# Altium schematic symbol library con-vg.SCHLIB: 123 symbols (part 3 of 5)

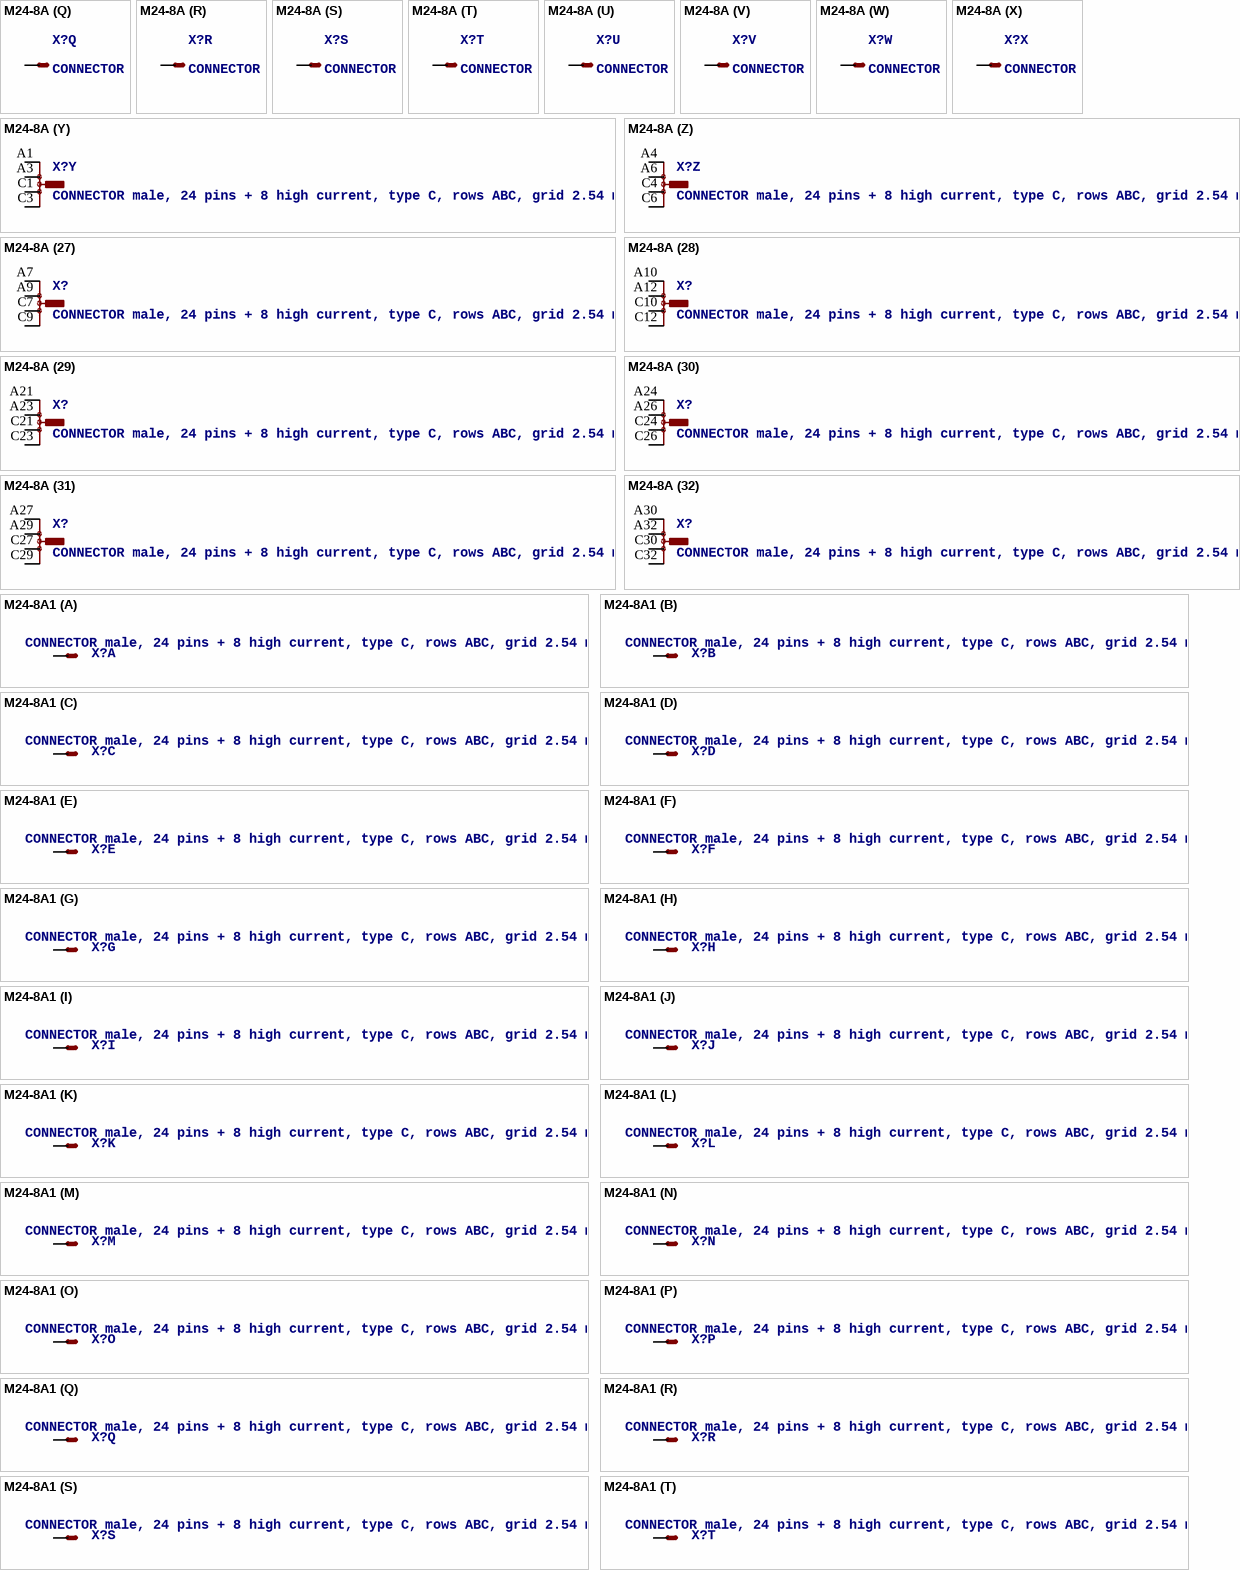
[diagram p46: symbols M24-8A to M24-8A1]

## M24-8A
designator X?, comment CONNECTOR male, 24 pins + 8 high current, type C, rows ABC, grid 2.54 mm
footprint M24-8A
part A pins: A13 S
part B pins: A14 S
part C pins: A15 S
part D pins: A16 S
part E pins: A17 S
part F pins: A18 S
part G pins: A19 S
part H pins: A20 S
part I pins: B13 S
part J pins: B14 S
part K pins: B15 S
part L pins: B16 S
part M pins: B17 S
part N pins: B18 S
part O pins: B19 S
part P pins: B20 S
part Q pins: C13 S
part R pins: C14 S
part S pins: C15 S
part T pins: C16 S
part U pins: C17 S
part V pins: C18 S
part W pins: C19 S
part X pins: C20 S
part Y pins: A1 S1, A3 S2, C1 S3, C3 S4
part Z pins: A4 S1, A6 S2, C4 S3, C6 S4
part 27 pins: A7 S1, A9 S2, C7 S3, C9 S4
part 28 pins: A10 S1, A12 S2, C10 S3, C12 S4
part 29 pins: A21 S1, A23 S2, C21 S3, C23 S4
part 30 pins: A24 S1, A26 S2, C24 S3, C26 S4
part 31 pins: A27 S1, A29 S2, C27 S3, C29 S4
part 32 pins: A30 S1, A32 S2, C30 S3, C32 S4

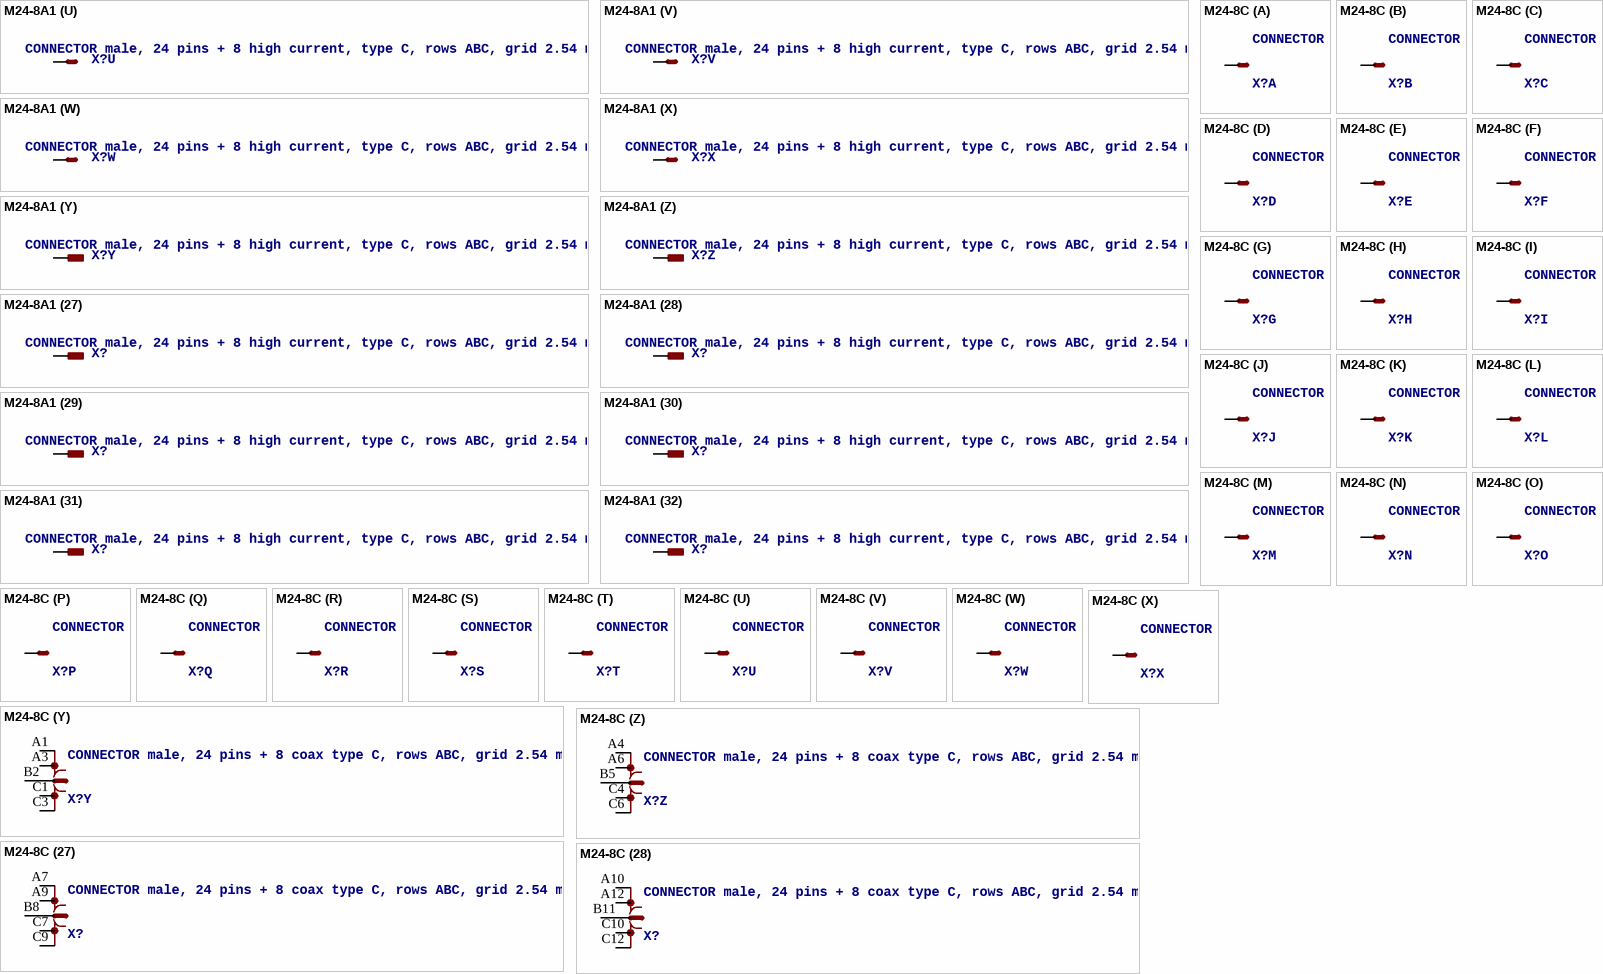
[diagram p47: symbols M24-8A1 to M24-8C]

## M24-8A1
designator X?, comment CONNECTOR male, 24 pins + 8 high current, type C, rows ABC, grid 2.54 mm
footprint M24-8A1
part A pins: A13 S
part B pins: A14 S
part C pins: A15 S
part D pins: A16 S
part E pins: A17 S
part F pins: A18 S
part G pins: A19 S
part H pins: A20 S
part I pins: B13 S
part J pins: B14 S
part K pins: B15 S
part L pins: B16 S
part M pins: B17 S
part N pins: B18 S
part O pins: B19 S
part P pins: B20 S
part Q pins: C13 S
part R pins: C14 S
part S pins: C15 S
part T pins: C16 S
part U pins: C17 S
part V pins: C18 S
part W pins: C19 S
part X pins: C20 S
part Y pins: B2 B
part Z pins: B5 B
part 27 pins: B8 B
part 28 pins: B11 B
part 29 pins: B22 B
part 30 pins: B25 B
part 31 pins: B28 B
part 32 pins: B31 B

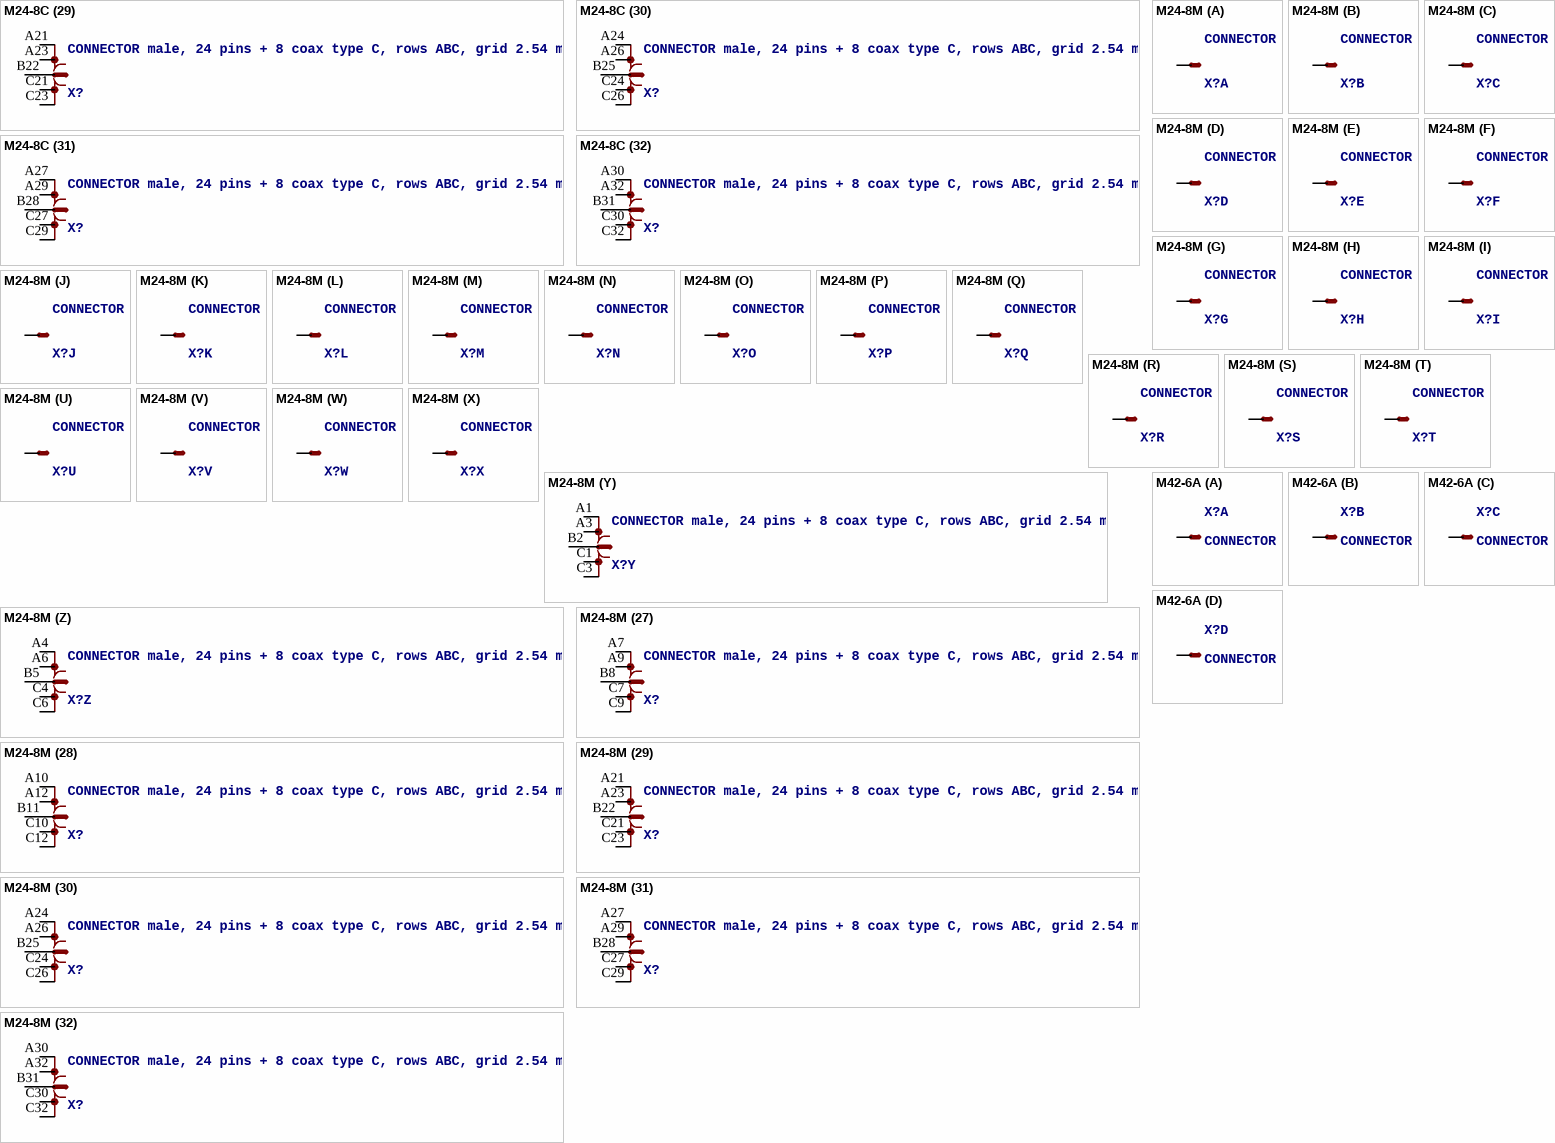
[diagram p48: symbols M24-8C to M42-6A]

## M24-8C
designator X?, comment CONNECTOR male, 24 pins + 8 coax type C, rows ABC, grid 2.54 mm
footprint M24-8C
part A pins: A13 S
part B pins: A14 S
part C pins: A15 S
part D pins: A16 S
part E pins: A17 S
part F pins: A18 S
part G pins: A19 S
part H pins: A20 S
part I pins: B13 S
part J pins: B14 S
part K pins: B15 S
part L pins: B16 S
part M pins: B17 S
part N pins: B18 S
part O pins: B19 S
part P pins: B20 S
part Q pins: C13 S
part R pins: C14 S
part S pins: C15 S
part T pins: C16 S
part U pins: C17 S
part V pins: C18 S
part W pins: C19 S
part X pins: C20 S
part Y pins: A1 S1, A3 S2, B2 S, C1 S3, C3 S4
part Z pins: A4 S1, A6 S2, B5 S, C4 S3, C6 S4
part 27 pins: A7 S1, A9 S2, B8 S, C7 S3, C9 S4
part 28 pins: A10 S1, A12 S2, B11 S, C10 S3, C12 S4
part 29 pins: A21 S1, A23 S2, B22 S, C21 S3, C23 S4
part 30 pins: A24 S1, A26 S2, B25 S, C24 S3, C26 S4
part 31 pins: A27 S1, A29 S2, B28 S, C27 S3, C29 S4
part 32 pins: A30 S1, A32 S2, B31 S, C30 S3, C32 S4

## M24-8M
designator X?, comment CONNECTOR male, 24 pins + 8 coax type C, rows ABC, grid 2.54 mm
footprint M24-8M
part A pins: A13 S
part B pins: A14 S
part C pins: A15 S
part D pins: A16 S
part E pins: A17 S
part F pins: A18 S
part G pins: A19 S
part H pins: A20 S
part I pins: B13 S
part J pins: B14 S
part K pins: B15 S
part L pins: B16 S
part M pins: B17 S
part N pins: B18 S
part O pins: B19 S
part P pins: B20 S
part Q pins: C13 S
part R pins: C14 S
part S pins: C15 S
part T pins: C16 S
part U pins: C17 S
part V pins: C18 S
part W pins: C19 S
part X pins: C20 S
part Y pins: A1 S1, A3 S2, B2 S, C1 S3, C3 S4
part Z pins: A4 S1, A6 S2, B5 S, C4 S3, C6 S4
part 27 pins: A7 S1, A9 S2, B8 S, C7 S3, C9 S4
part 28 pins: A10 S1, A12 S2, B11 S, C10 S3, C12 S4
part 29 pins: A21 S1, A23 S2, B22 S, C21 S3, C23 S4
part 30 pins: A24 S1, A26 S2, B25 S, C24 S3, C26 S4
part 31 pins: A27 S1, A29 S2, B28 S, C27 S3, C29 S4
part 32 pins: A30 S1, A32 S2, B31 S, C30 S3, C32 S4

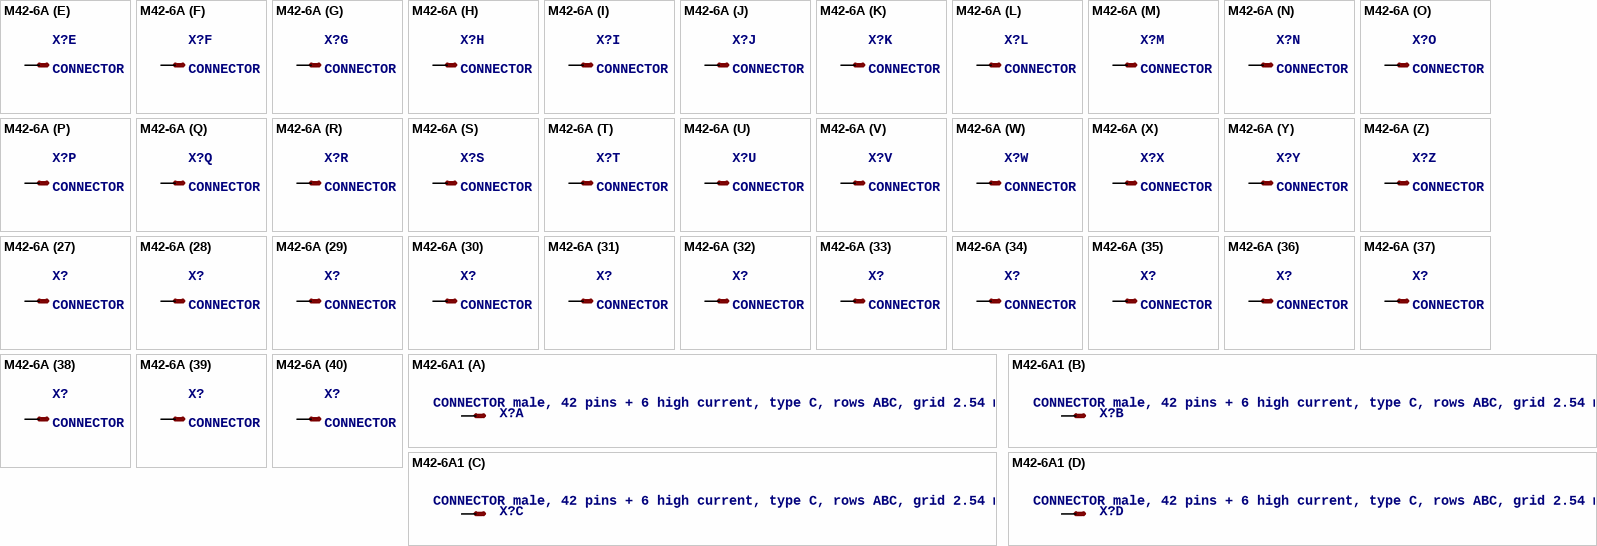
[diagram p49: symbols M42-6A to M42-6A1]

## M42-6A
designator X?, comment CONNECTOR male, 42 pins + 6 high current, type C, rows ABC, grid 2.54 mm
footprint M42-6A
part A pins: A10 S
part B pins: A11 S
part C pins: A12 S
part D pins: A13 S
part E pins: A14 S
part F pins: A15 S
part G pins: A16 S
part H pins: A17 S
part I pins: A18 S
part J pins: A19 S
part K pins: A20 S
part L pins: A21 S
part M pins: A22 S
part N pins: A23 S
part O pins: B10 S
part P pins: B11 S
part Q pins: B12 S
part R pins: B13 S
part S pins: B14 S
part T pins: B15 S
part U pins: B16 S
part V pins: B17 S
part W pins: B18 S
part X pins: B19 S
part Y pins: B20 S
part Z pins: B21 S
part 27 pins: B22 S
part 28 pins: B23 S
part 29 pins: C10 S
part 30 pins: C11 S
part 31 pins: C12 S
part 32 pins: C13 S
part 33 pins: C14 S
part 34 pins: C15 S
part 35 pins: C16 S
part 36 pins: C17 S
part 37 pins: C18 S
part 38 pins: C19 S
part 39 pins: C20 S
part 40 pins: C21 S
part 41 pins: C22 S
part 42 pins: C23 S
part 43 pins: A1 S1, A3 S2, C1 S3, C3 S4
part 44 pins: A4 S1, A6 S2, C4 S3, C6 S4
part 45 pins: A7 S1, A9 S2, C7 S3, C9 S4
part 46 pins: A24 S1, A26 S2, C24 S3, C26 S4
part 47 pins: A27 S1, A29 S2, C27 S3, C29 S4
part 48 pins: A30 S1, A32 S2, C30 S3, C32 S4

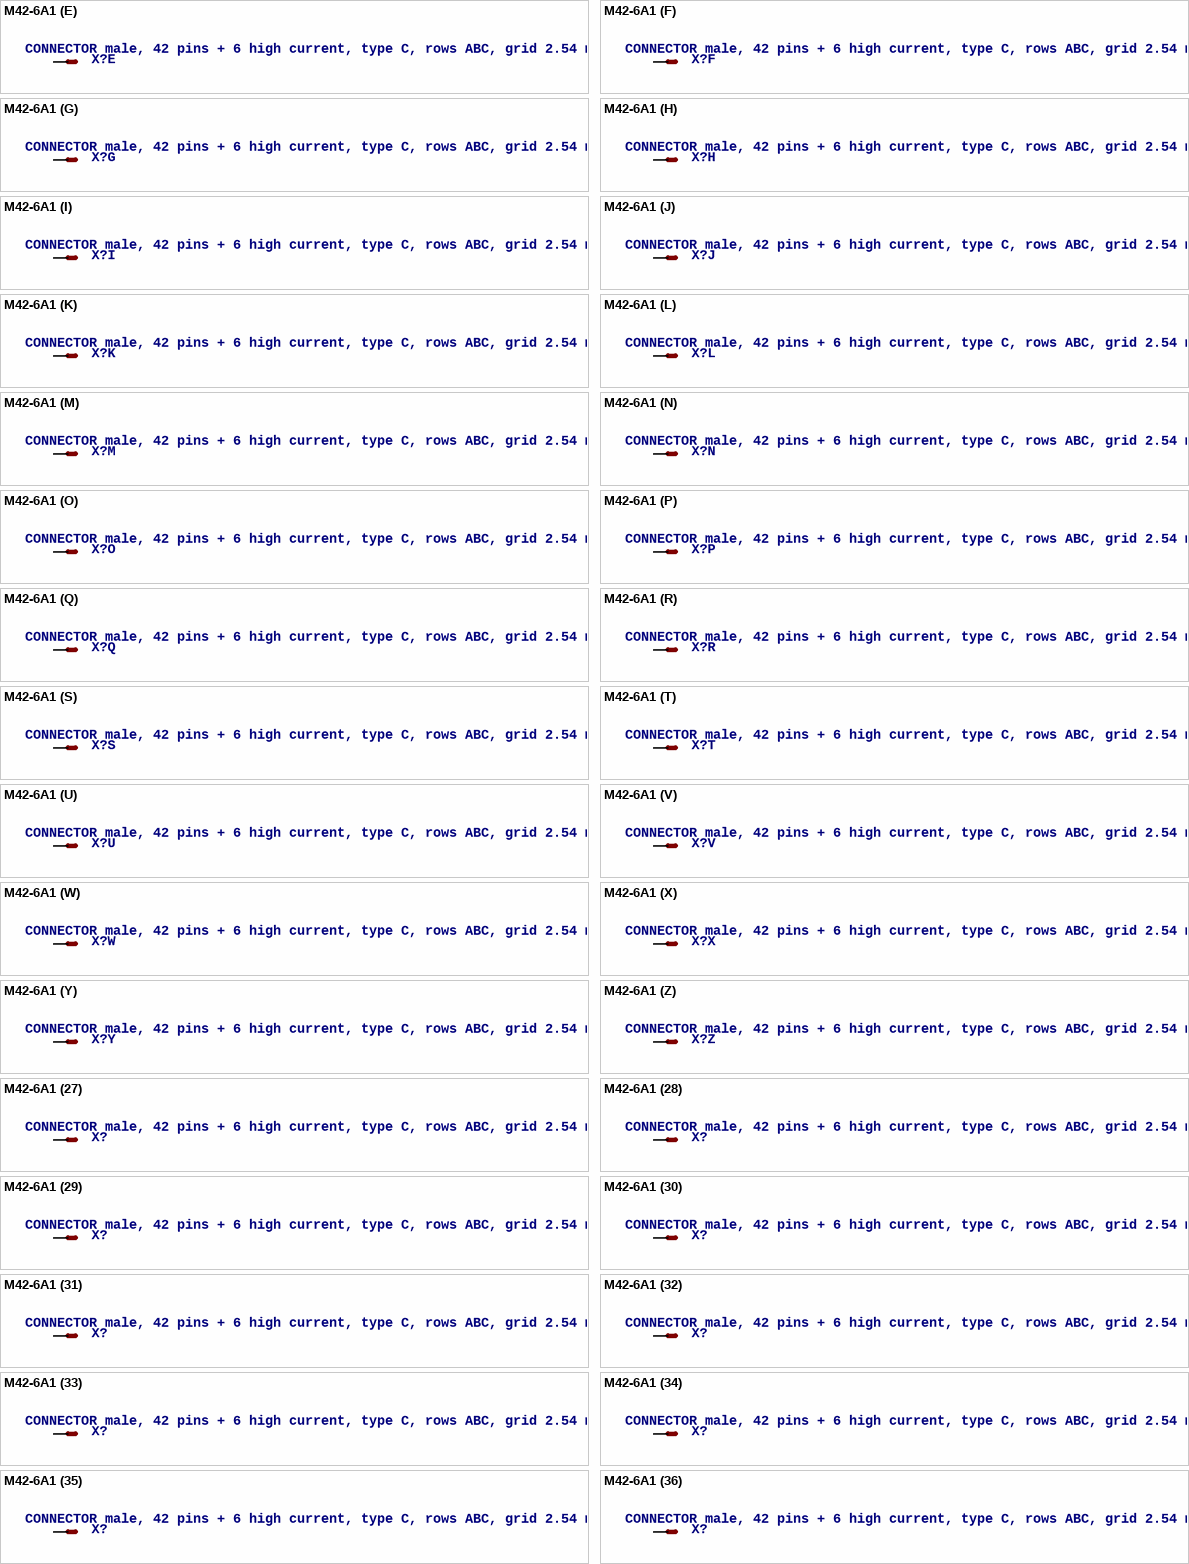
[diagram p50: symbol M42-6A1]

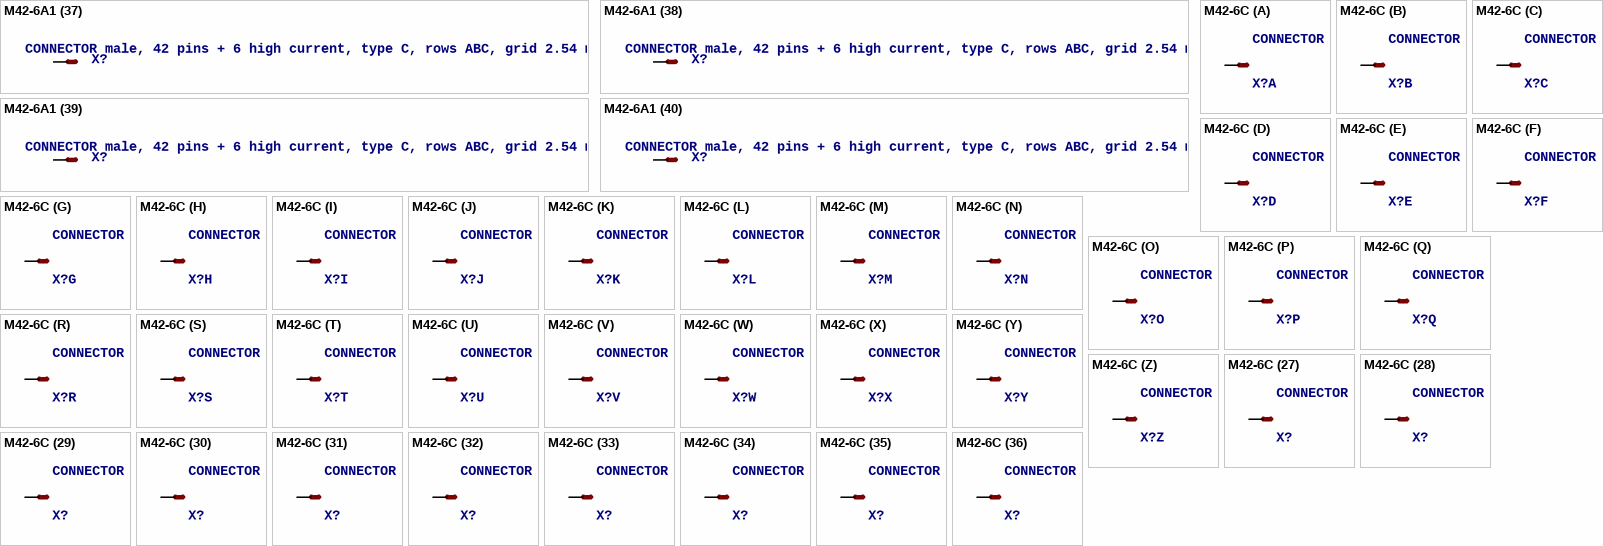
[diagram p51: symbols M42-6A1 to M42-6C]

## M42-6A1
designator X?, comment CONNECTOR male, 42 pins + 6 high current, type C, rows ABC, grid 2.54 mm
footprint M42-6A1
part A pins: A10 S
part B pins: A11 S
part C pins: A12 S
part D pins: A13 S
part E pins: A14 S
part F pins: A15 S
part G pins: A16 S
part H pins: A17 S
part I pins: A18 S
part J pins: A19 S
part K pins: A20 S
part L pins: A21 S
part M pins: A22 S
part N pins: A23 S
part O pins: B10 S
part P pins: B11 S
part Q pins: B12 S
part R pins: B13 S
part S pins: B14 S
part T pins: B15 S
part U pins: B16 S
part V pins: B17 S
part W pins: B18 S
part X pins: B19 S
part Y pins: B20 S
part Z pins: B21 S
part 27 pins: B22 S
part 28 pins: B23 S
part 29 pins: C10 S
part 30 pins: C11 S
part 31 pins: C12 S
part 32 pins: C13 S
part 33 pins: C14 S
part 34 pins: C15 S
part 35 pins: C16 S
part 36 pins: C17 S
part 37 pins: C18 S
part 38 pins: C19 S
part 39 pins: C20 S
part 40 pins: C21 S
part 41 pins: C22 S
part 42 pins: C23 S
part 43 pins: B2 B
part 44 pins: B5 B
part 45 pins: B8 B
part 46 pins: B25 B
part 47 pins: B28 B
part 48 pins: B31 B

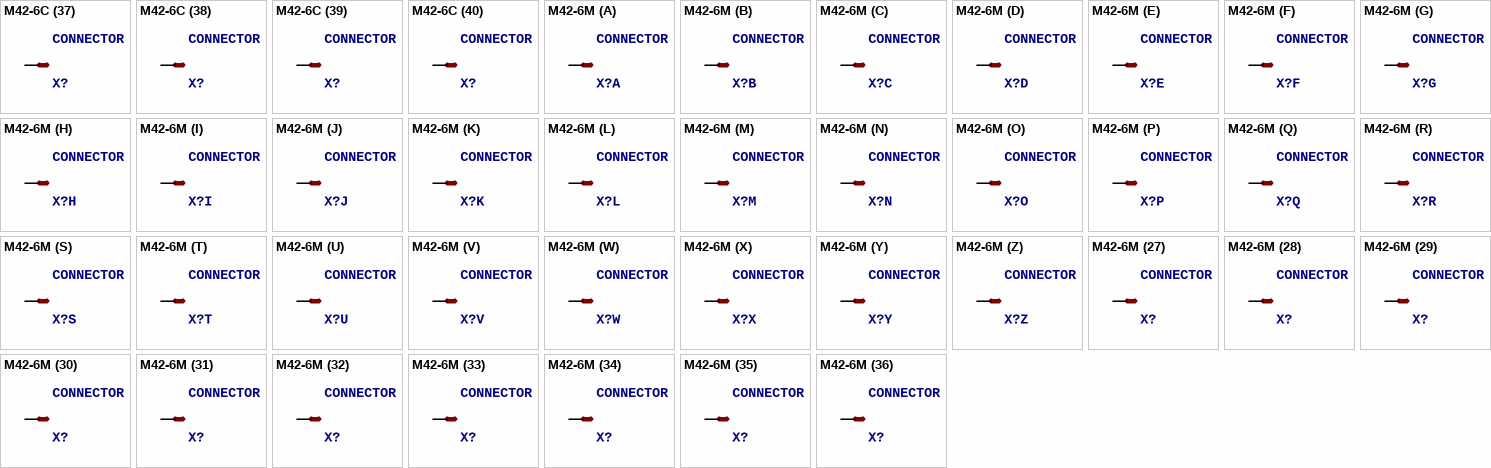
[diagram p52: symbols M42-6C to M42-6M]

## M42-6C
designator X?, comment CONNECTOR male, 42 pins + 6 coax type C, rows ABC, grid 2.54 mm
footprint M42-6C
part A pins: A10 S
part B pins: A11 S
part C pins: A12 S
part D pins: A13 S
part E pins: A14 S
part F pins: A15 S
part G pins: A16 S
part H pins: A17 S
part I pins: A18 S
part J pins: A19 S
part K pins: A20 S
part L pins: A21 S
part M pins: A22 S
part N pins: A23 S
part O pins: B10 S
part P pins: B11 S
part Q pins: B12 S
part R pins: B13 S
part S pins: B14 S
part T pins: B15 S
part U pins: B16 S
part V pins: B17 S
part W pins: B18 S
part X pins: B19 S
part Y pins: B20 S
part Z pins: B21 S
part 27 pins: B22 S
part 28 pins: B23 S
part 29 pins: C10 S
part 30 pins: C11 S
part 31 pins: C12 S
part 32 pins: C13 S
part 33 pins: C14 S
part 34 pins: C15 S
part 35 pins: C16 S
part 36 pins: C17 S
part 37 pins: C18 S
part 38 pins: C19 S
part 39 pins: C20 S
part 40 pins: C21 S
part 41 pins: C22 S
part 42 pins: C23 S
part 43 pins: A1 S1, A3 S2, B2 S, C1 S3, C3 S4
part 44 pins: A4 S1, A6 S2, B5 S, C4 S3, C6 S4
part 45 pins: A7 S1, A9 S2, B8 S, C7 S3, C9 S4
part 46 pins: A24 S1, A26 S2, B25 S, C24 S3, C26 S4
part 47 pins: A27 S1, A29 S2, B28 S, C27 S3, C29 S4
part 48 pins: A30 S1, A32 S2, B31 S, C30 S3, C32 S4

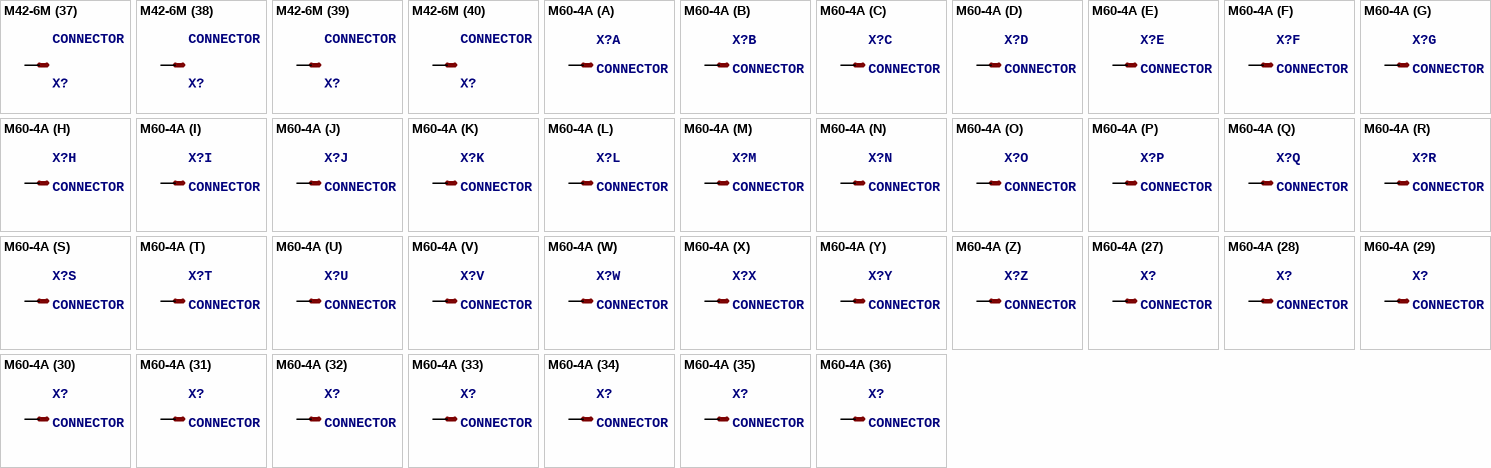
[diagram p53: symbols M42-6M to M60-4A]

## M42-6M
designator X?, comment CONNECTOR male, 42 pins + 10 coax type C, rows ABC, grid 2.54 mm
footprint M42-6M
part A pins: A10 S
part B pins: A11 S
part C pins: A12 S
part D pins: A13 S
part E pins: A14 S
part F pins: A15 S
part G pins: A16 S
part H pins: A17 S
part I pins: A18 S
part J pins: A19 S
part K pins: A20 S
part L pins: A21 S
part M pins: A22 S
part N pins: A23 S
part O pins: B10 S
part P pins: B11 S
part Q pins: B12 S
part R pins: B13 S
part S pins: B14 S
part T pins: B15 S
part U pins: B16 S
part V pins: B17 S
part W pins: B18 S
part X pins: B19 S
part Y pins: B20 S
part Z pins: B21 S
part 27 pins: B22 S
part 28 pins: B23 S
part 29 pins: C10 S
part 30 pins: C11 S
part 31 pins: C12 S
part 32 pins: C13 S
part 33 pins: C14 S
part 34 pins: C15 S
part 35 pins: C16 S
part 36 pins: C17 S
part 37 pins: C18 S
part 38 pins: C19 S
part 39 pins: C20 S
part 40 pins: C21 S
part 41 pins: C22 S
part 42 pins: C23 S
part 43 pins: A1 S1, A3 S2, B2 S, C1 S3, C3 S4
part 44 pins: A4 S1, A6 S2, B5 S, C4 S3, C6 S4
part 45 pins: A7 S1, A9 S2, B8 S, C7 S3, C9 S4
part 46 pins: A24 S1, A26 S2, B25 S, C24 S3, C26 S4
part 47 pins: A27 S1, A29 S2, B28 S, C27 S3, C29 S4
part 48 pins: A30 S1, A32 S2, B31 S, C30 S3, C32 S4

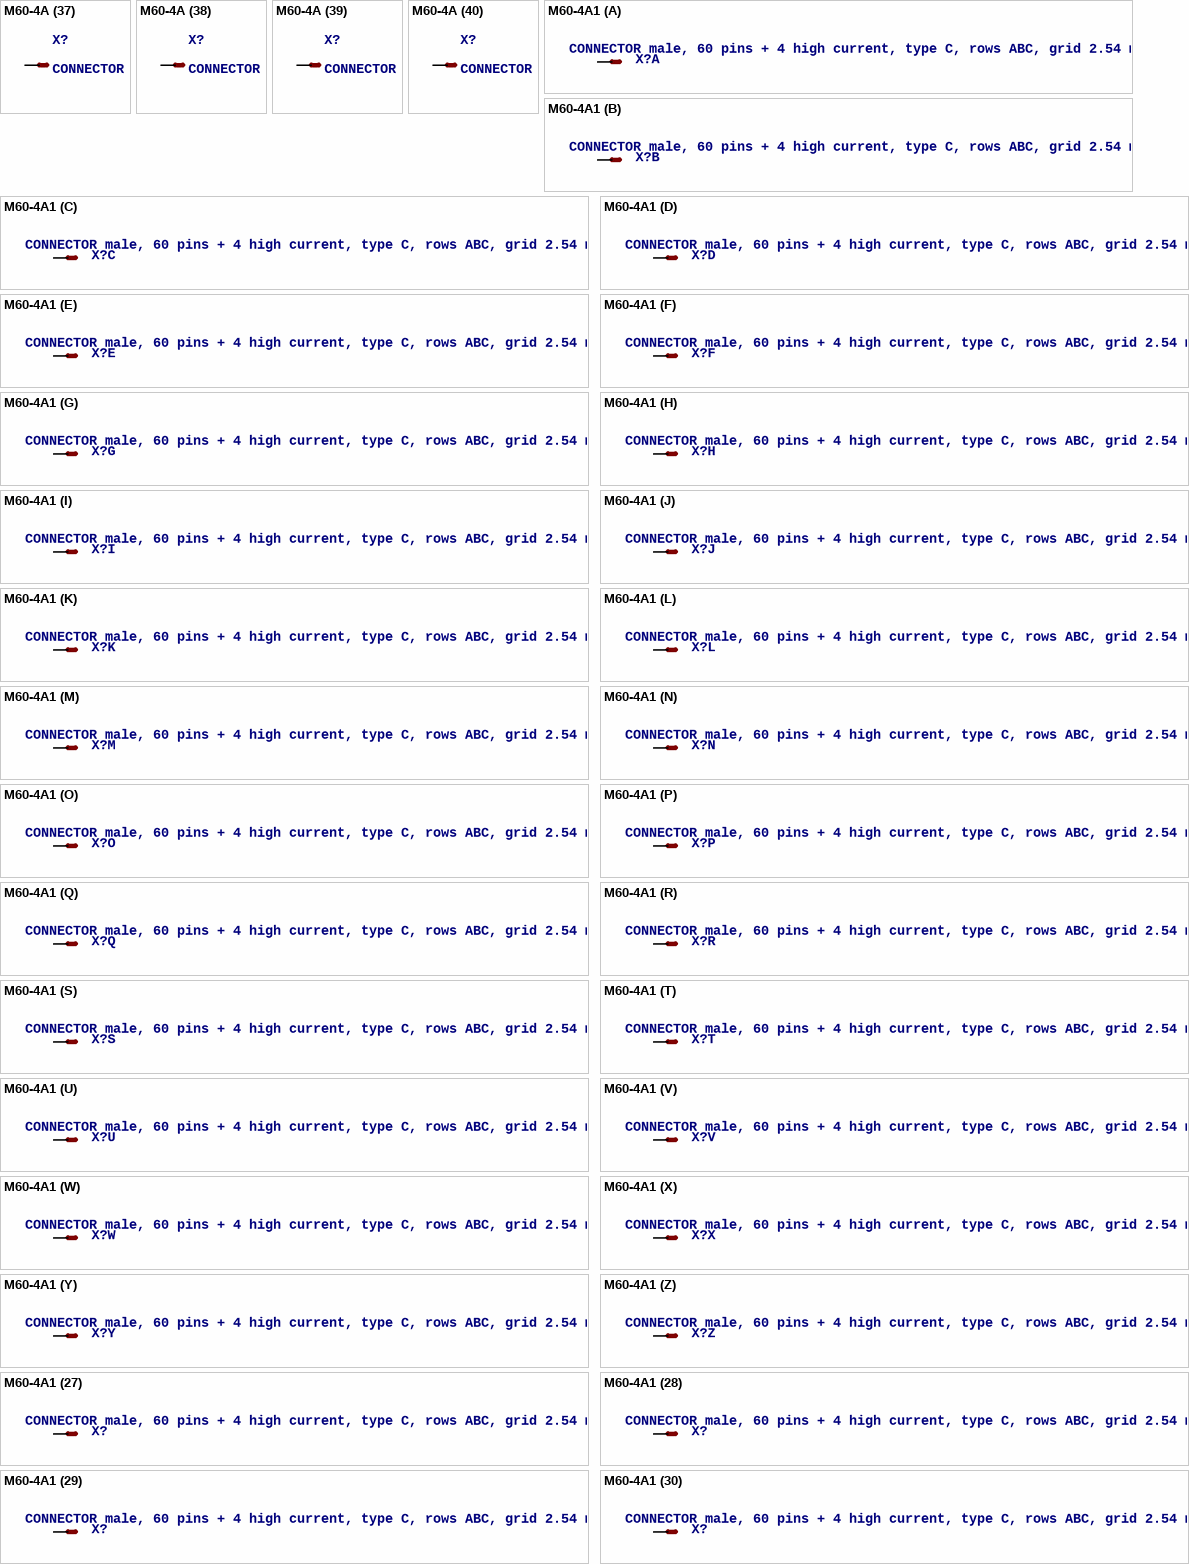
[diagram p54: symbols M60-4A to M60-4A1]

## M60-4A
designator X?, comment CONNECTOR male, 60 pins + 4 high current, type C, rows ABC, grid 2.54 mm
footprint M60-4A
part A pins: A7 S
part B pins: A8 S
part C pins: A9 S
part D pins: A10 S
part E pins: A11 S
part F pins: A12 S
part G pins: A13 S
part H pins: A14 S
part I pins: A15 S
part J pins: A16 S
part K pins: A17 S
part L pins: A18 S
part M pins: A19 S
part N pins: A20 S
part O pins: A21 S
part P pins: A22 S
part Q pins: A23 S
part R pins: A24 S
part S pins: A25 S
part T pins: A26 S
part U pins: B7 S
part V pins: B8 S
part W pins: B9 S
part X pins: B10 S
part Y pins: B11 S
part Z pins: B12 S
part 27 pins: B13 S
part 28 pins: B14 S
part 29 pins: B15 S
part 30 pins: B16 S
part 31 pins: B17 S
part 32 pins: B18 S
part 33 pins: B19 S
part 34 pins: B20 S
part 35 pins: B21 S
part 36 pins: B22 S
part 37 pins: B23 S
part 38 pins: B24 S
part 39 pins: B25 S
part 40 pins: B26 S
part 41 pins: C7 S
part 42 pins: C8 S
part 43 pins: C9 S
part 44 pins: C10 S
part 45 pins: C11 S
part 46 pins: C12 S
part 47 pins: C13 S
part 48 pins: C14 S
part 49 pins: C15 S
part 50 pins: C16 S
part 51 pins: C17 S
part 52 pins: C18 S
part 53 pins: C19 S
part 54 pins: C20 S
part 55 pins: C21 S
part 56 pins: C22 S
part 57 pins: C23 S
part 58 pins: C24 S
part 59 pins: C25 S
part 60 pins: C26 S
part 61 pins: A1 S1, A3 S2, C1 S3, C3 S4
part 62 pins: A4 S1, A6 S2, C4 S3, C6 S4
part 63 pins: A27 S1, A29 S2, C27 S3, C29 S4
part 64 pins: A30 S1, A32 S2, C30 S3, C32 S4

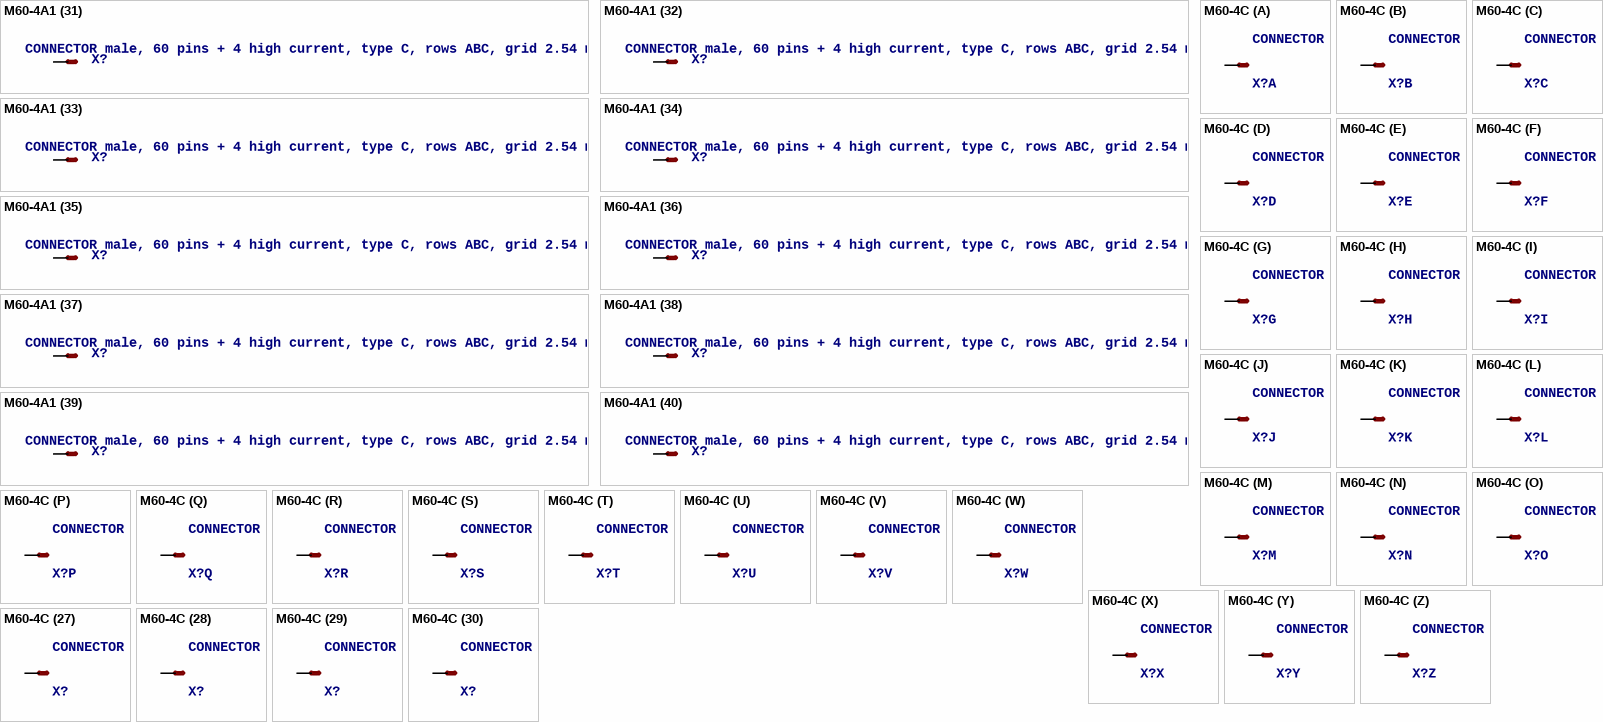
[diagram p55: symbols M60-4A1 to M60-4C]

## M60-4A1
designator X?, comment CONNECTOR male, 60 pins + 4 high current, type C, rows ABC, grid 2.54 mm
footprint M60-4A1
part A pins: A7 S
part B pins: A8 S
part C pins: A9 S
part D pins: A10 S
part E pins: A11 S
part F pins: A12 S
part G pins: A13 S
part H pins: A14 S
part I pins: A15 S
part J pins: A16 S
part K pins: A17 S
part L pins: A18 S
part M pins: A19 S
part N pins: A20 S
part O pins: A21 S
part P pins: A22 S
part Q pins: A23 S
part R pins: A24 S
part S pins: A25 S
part T pins: A26 S
part U pins: B7 S
part V pins: B8 S
part W pins: B9 S
part X pins: B10 S
part Y pins: B11 S
part Z pins: B12 S
part 27 pins: B13 S
part 28 pins: B14 S
part 29 pins: B15 S
part 30 pins: B16 S
part 31 pins: B17 S
part 32 pins: B18 S
part 33 pins: B19 S
part 34 pins: B20 S
part 35 pins: B21 S
part 36 pins: B22 S
part 37 pins: B23 S
part 38 pins: B24 S
part 39 pins: B25 S
part 40 pins: B26 S
part 41 pins: C7 S
part 42 pins: C8 S
part 43 pins: C9 S
part 44 pins: C10 S
part 45 pins: C11 S
part 46 pins: C12 S
part 47 pins: C13 S
part 48 pins: C14 S
part 49 pins: C15 S
part 50 pins: C16 S
part 51 pins: C17 S
part 52 pins: C18 S
part 53 pins: C19 S
part 54 pins: C20 S
part 55 pins: C21 S
part 56 pins: C22 S
part 57 pins: C23 S
part 58 pins: C24 S
part 59 pins: C25 S
part 60 pins: C26 S
part 61 pins: B2 B
part 62 pins: B5 B
part 63 pins: B28 B
part 64 pins: B31 B

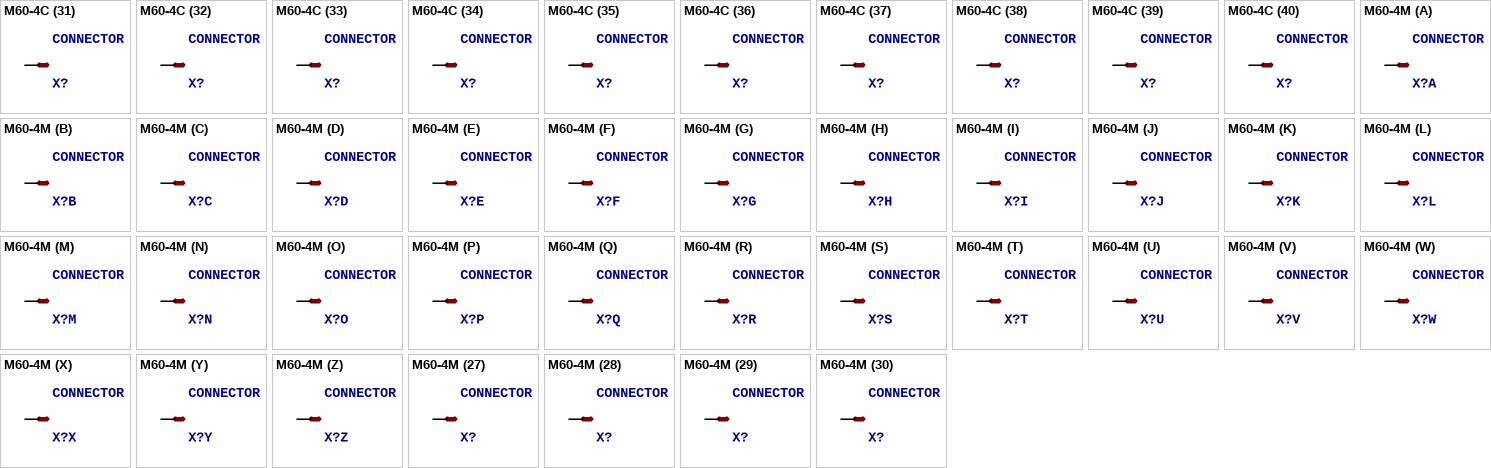
[diagram p56: symbols M60-4C to M60-4M]

## M60-4C
designator X?, comment CONNECTOR male, 60 pins + 4 coax type C, rows ABC, grid 2.54 mm
footprint M60-4C
part A pins: A7 S
part B pins: A8 S
part C pins: A9 S
part D pins: A10 S
part E pins: A11 S
part F pins: A12 S
part G pins: A13 S
part H pins: A14 S
part I pins: A15 S
part J pins: A16 S
part K pins: A17 S
part L pins: A18 S
part M pins: A19 S
part N pins: A20 S
part O pins: A21 S
part P pins: A22 S
part Q pins: A23 S
part R pins: A24 S
part S pins: A25 S
part T pins: A26 S
part U pins: B7 S
part V pins: B8 S
part W pins: B9 S
part X pins: B10 S
part Y pins: B11 S
part Z pins: B12 S
part 27 pins: B13 S
part 28 pins: B14 S
part 29 pins: B15 S
part 30 pins: B16 S
part 31 pins: B17 S
part 32 pins: B18 S
part 33 pins: B19 S
part 34 pins: B20 S
part 35 pins: B21 S
part 36 pins: B22 S
part 37 pins: B23 S
part 38 pins: B24 S
part 39 pins: B25 S
part 40 pins: B26 S
part 41 pins: C7 S
part 42 pins: C8 S
part 43 pins: C9 S
part 44 pins: C10 S
part 45 pins: C11 S
part 46 pins: C12 S
part 47 pins: C13 S
part 48 pins: C14 S
part 49 pins: C15 S
part 50 pins: C16 S
part 51 pins: C17 S
part 52 pins: C18 S
part 53 pins: C19 S
part 54 pins: C20 S
part 55 pins: C21 S
part 56 pins: C22 S
part 57 pins: C23 S
part 58 pins: C24 S
part 59 pins: C25 S
part 60 pins: C26 S
part 61 pins: A1 S1, A3 S2, B2 S, C1 S3, C3 S4
part 62 pins: A4 S1, A6 S2, B5 S, C4 S3, C6 S4
part 63 pins: A27 S1, A29 S2, B28 S, C27 S3, C29 S4
part 64 pins: A30 S1, A32 S2, B31 S, C30 S3, C32 S4

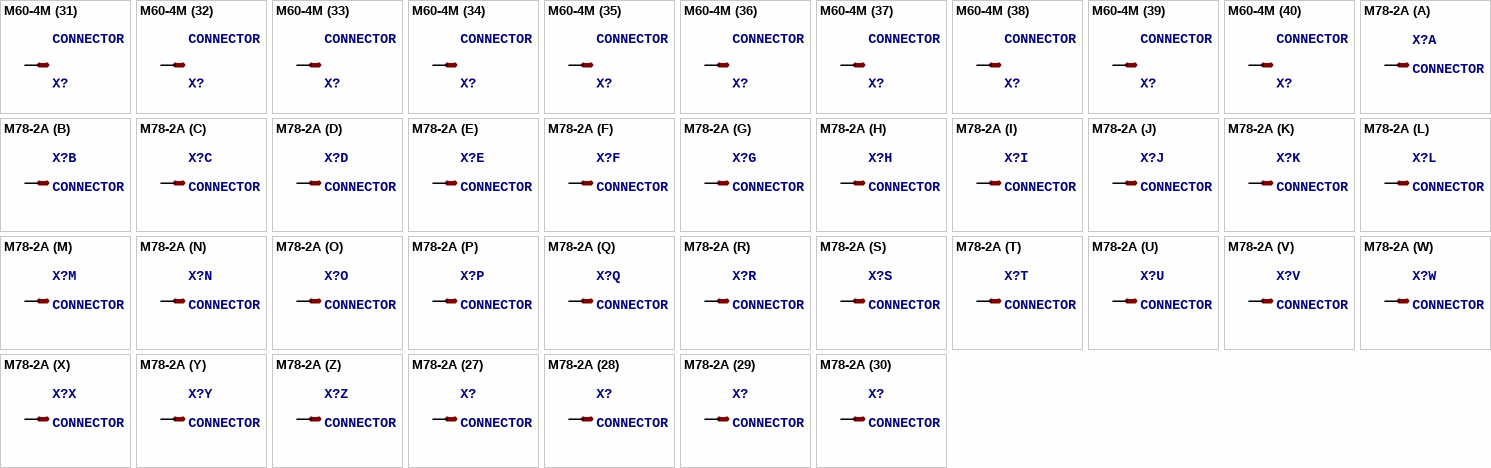
[diagram p57: symbols M60-4M to M78-2A]

## M60-4M
designator X?, comment CONNECTOR male, 60 pins + 4 coax type C, rows ABC, grid 2.54 mm
footprint M60-4M
part A pins: A7 S
part B pins: A8 S
part C pins: A9 S
part D pins: A10 S
part E pins: A11 S
part F pins: A12 S
part G pins: A13 S
part H pins: A14 S
part I pins: A15 S
part J pins: A16 S
part K pins: A17 S
part L pins: A18 S
part M pins: A19 S
part N pins: A20 S
part O pins: A21 S
part P pins: A22 S
part Q pins: A23 S
part R pins: A24 S
part S pins: A25 S
part T pins: A26 S
part U pins: B7 S
part V pins: B8 S
part W pins: B9 S
part X pins: B10 S
part Y pins: B11 S
part Z pins: B12 S
part 27 pins: B13 S
part 28 pins: B14 S
part 29 pins: B15 S
part 30 pins: B16 S
part 31 pins: B17 S
part 32 pins: B18 S
part 33 pins: B19 S
part 34 pins: B20 S
part 35 pins: B21 S
part 36 pins: B22 S
part 37 pins: B23 S
part 38 pins: B24 S
part 39 pins: B25 S
part 40 pins: B26 S
part 41 pins: C7 S
part 42 pins: C8 S
part 43 pins: C9 S
part 44 pins: C10 S
part 45 pins: C11 S
part 46 pins: C12 S
part 47 pins: C13 S
part 48 pins: C14 S
part 49 pins: C15 S
part 50 pins: C16 S
part 51 pins: C17 S
part 52 pins: C18 S
part 53 pins: C19 S
part 54 pins: C20 S
part 55 pins: C21 S
part 56 pins: C22 S
part 57 pins: C23 S
part 58 pins: C24 S
part 59 pins: C25 S
part 60 pins: C26 S
part 61 pins: A1 S1, A3 S2, B2 S, C1 S3, C3 S4
part 62 pins: A4 S1, A6 S2, B5 S, C4 S3, C6 S4
part 63 pins: A27 S1, A29 S2, B28 S, C27 S3, C29 S4
part 64 pins: A30 S1, A32 S2, B31 S, C30 S3, C32 S4

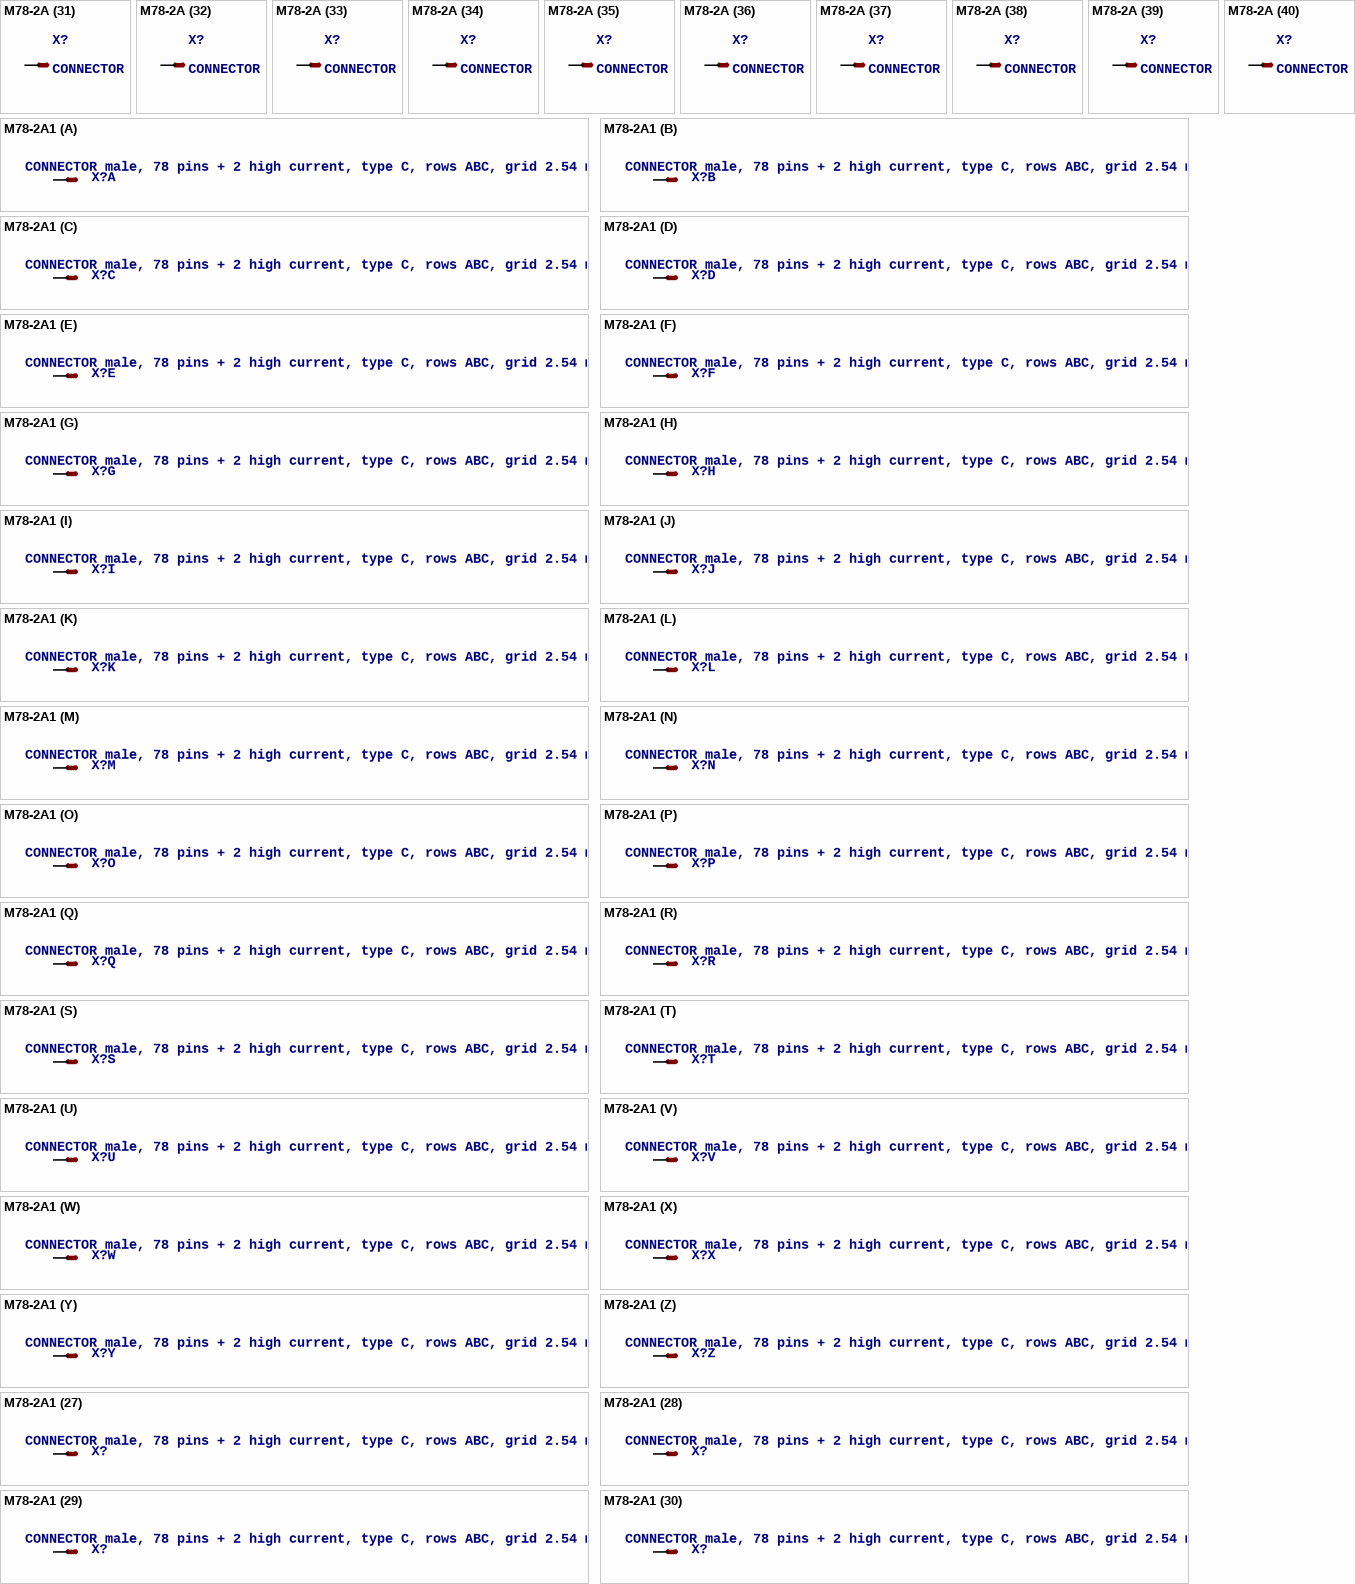
[diagram p58: symbols M78-2A to M78-2A1]

## M78-2A
designator X?, comment CONNECTOR male, 78 pins + 2 high current, type C, rows ABC, grid 2.54 mm
footprint M78-2A
part A pins: A4 S
part B pins: A5 S
part C pins: A6 S
part D pins: A7 S
part E pins: A8 S
part F pins: A9 S
part G pins: A10 S
part H pins: A11 S
part I pins: A12 S
part J pins: A13 S
part K pins: A14 S
part L pins: A15 S
part M pins: A16 S
part N pins: A17 S
part O pins: A18 S
part P pins: A19 S
part Q pins: A20 S
part R pins: A21 S
part S pins: A22 S
part T pins: A23 S
part U pins: A24 S
part V pins: A25 S
part W pins: A26 S
part X pins: A27 S
part Y pins: A28 S
part Z pins: A29 S
part 27 pins: B4 S
part 28 pins: B5 S
part 29 pins: B6 S
part 30 pins: B7 S
part 31 pins: B8 S
part 32 pins: B9 S
part 33 pins: B10 S
part 34 pins: B11 S
part 35 pins: B12 S
part 36 pins: B13 S
part 37 pins: B14 S
part 38 pins: B15 S
part 39 pins: B16 S
part 40 pins: B17 S
part 41 pins: B18 S
part 42 pins: B19 S
part 43 pins: B20 S
part 44 pins: B21 S
part 45 pins: B22 S
part 46 pins: B23 S
part 47 pins: B24 S
part 48 pins: B25 S
part 49 pins: B26 S
part 50 pins: B27 S
part 51 pins: B28 S
part 52 pins: B29 S
part 53 pins: C4 S
part 54 pins: C5 S
part 55 pins: C6 S
part 56 pins: C7 S
part 57 pins: C8 S
part 58 pins: C9 S
part 59 pins: C10 S
part 60 pins: C11 S
part 61 pins: C12 S
part 62 pins: C13 S
part 63 pins: C14 S
part 64 pins: C15 S
part 65 pins: C16 S
part 66 pins: C17 S
part 67 pins: C18 S
part 68 pins: C19 S
part 69 pins: C20 S
part 70 pins: C21 S
part 71 pins: C22 S
part 72 pins: C23 S
part 73 pins: C24 S
part 74 pins: C25 S
part 75 pins: C26 S
part 76 pins: C27 S
part 77 pins: C28 S
part 78 pins: C29 S
part 79 pins: A1 S1, A3 S2, C1 S3, C3 S4
part 80 pins: A30 S1, A32 S2, C30 S3, C32 S4

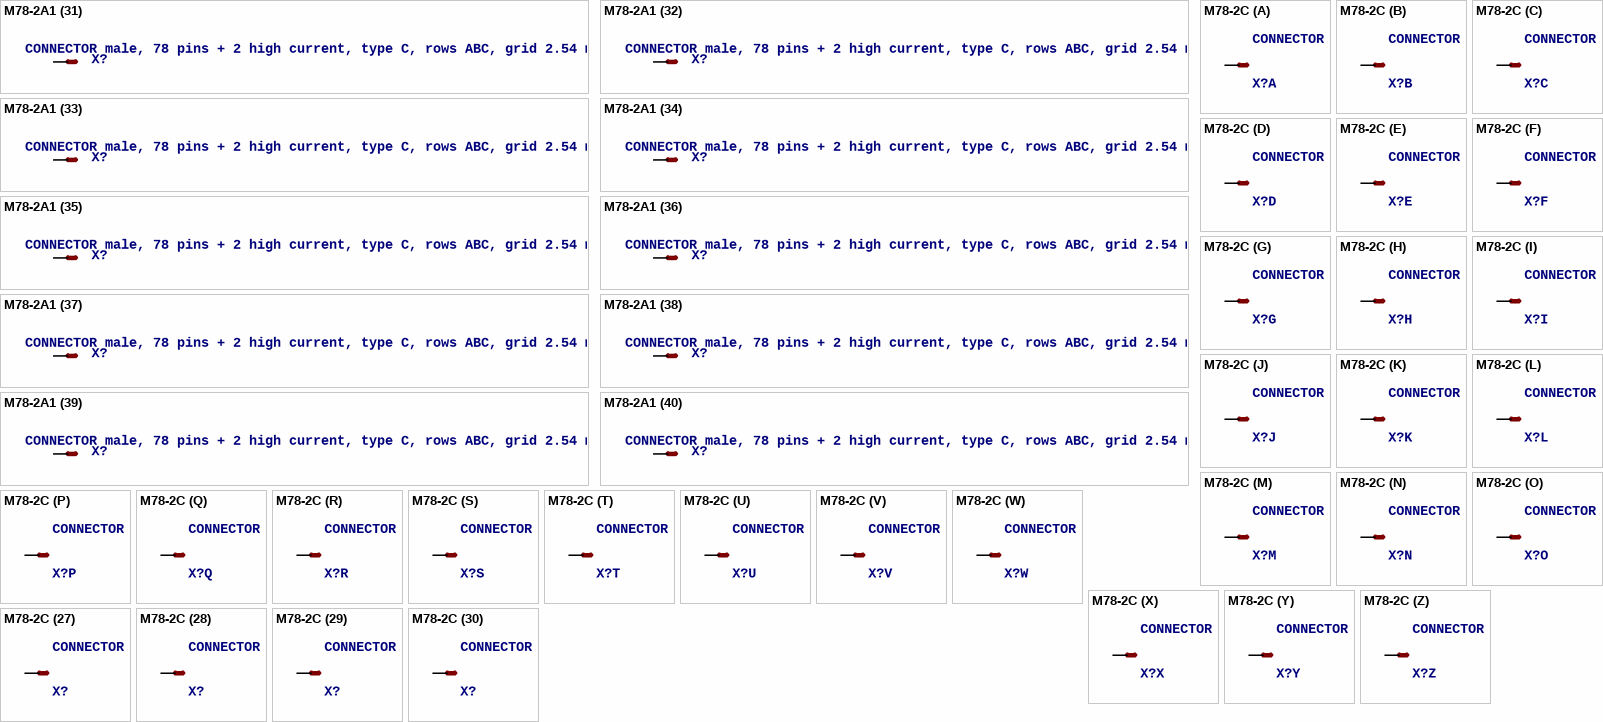
[diagram p59: symbols M78-2A1 to M78-2C]

## M78-2A1
designator X?, comment CONNECTOR male, 78 pins + 2 high current, type C, rows ABC, grid 2.54 mm
footprint M78-2A1
part A pins: A4 S
part B pins: A5 S
part C pins: A6 S
part D pins: A7 S
part E pins: A8 S
part F pins: A9 S
part G pins: A10 S
part H pins: A11 S
part I pins: A12 S
part J pins: A13 S
part K pins: A14 S
part L pins: A15 S
part M pins: A16 S
part N pins: A17 S
part O pins: A18 S
part P pins: A19 S
part Q pins: A20 S
part R pins: A21 S
part S pins: A22 S
part T pins: A23 S
part U pins: A24 S
part V pins: A25 S
part W pins: A26 S
part X pins: A27 S
part Y pins: A28 S
part Z pins: A29 S
part 27 pins: B4 S
part 28 pins: B5 S
part 29 pins: B6 S
part 30 pins: B7 S
part 31 pins: B8 S
part 32 pins: B9 S
part 33 pins: B10 S
part 34 pins: B11 S
part 35 pins: B12 S
part 36 pins: B13 S
part 37 pins: B14 S
part 38 pins: B15 S
part 39 pins: B16 S
part 40 pins: B17 S
part 41 pins: B18 S
part 42 pins: B19 S
part 43 pins: B20 S
part 44 pins: B21 S
part 45 pins: B22 S
part 46 pins: B23 S
part 47 pins: B24 S
part 48 pins: B25 S
part 49 pins: B26 S
part 50 pins: B27 S
part 51 pins: B28 S
part 52 pins: B29 S
part 53 pins: C4 S
part 54 pins: C5 S
part 55 pins: C6 S
part 56 pins: C7 S
part 57 pins: C8 S
part 58 pins: C9 S
part 59 pins: C10 S
part 60 pins: C11 S
part 61 pins: C12 S
part 62 pins: C13 S
part 63 pins: C14 S
part 64 pins: C15 S
part 65 pins: C16 S
part 66 pins: C17 S
part 67 pins: C18 S
part 68 pins: C19 S
part 69 pins: C20 S
part 70 pins: C21 S
part 71 pins: C22 S
part 72 pins: C23 S
part 73 pins: C24 S
part 74 pins: C25 S
part 75 pins: C26 S
part 76 pins: C27 S
part 77 pins: C28 S
part 78 pins: C29 S
part 79 pins: B2 B
part 80 pins: B31 B

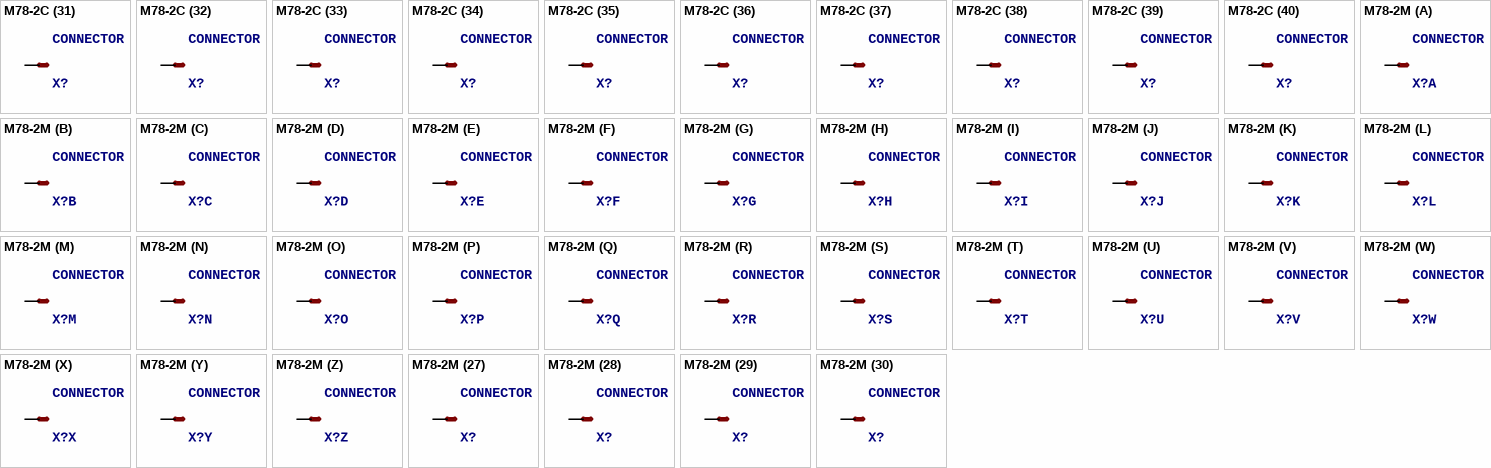
[diagram p60: symbols M78-2C to M78-2M]

## M78-2C
designator X?, comment CONNECTOR male, 78 pins + 2 coax, type C, rows ABC, grid 2.54 mm
footprint M78-2C
part A pins: A4 S
part B pins: A5 S
part C pins: A6 S
part D pins: A7 S
part E pins: A8 S
part F pins: A9 S
part G pins: A10 S
part H pins: A11 S
part I pins: A12 S
part J pins: A13 S
part K pins: A14 S
part L pins: A15 S
part M pins: A16 S
part N pins: A17 S
part O pins: A18 S
part P pins: A19 S
part Q pins: A20 S
part R pins: A21 S
part S pins: A22 S
part T pins: A23 S
part U pins: A24 S
part V pins: A25 S
part W pins: A26 S
part X pins: A27 S
part Y pins: A28 S
part Z pins: A29 S
part 27 pins: B4 S
part 28 pins: B5 S
part 29 pins: B6 S
part 30 pins: B7 S
part 31 pins: B8 S
part 32 pins: B9 S
part 33 pins: B10 S
part 34 pins: B11 S
part 35 pins: B12 S
part 36 pins: B13 S
part 37 pins: B14 S
part 38 pins: B15 S
part 39 pins: B16 S
part 40 pins: B17 S
part 41 pins: B18 S
part 42 pins: B19 S
part 43 pins: B20 S
part 44 pins: B21 S
part 45 pins: B22 S
part 46 pins: B23 S
part 47 pins: B24 S
part 48 pins: B25 S
part 49 pins: B26 S
part 50 pins: B27 S
part 51 pins: B28 S
part 52 pins: B29 S
part 53 pins: C4 S
part 54 pins: C5 S
part 55 pins: C6 S
part 56 pins: C7 S
part 57 pins: C8 S
part 58 pins: C9 S
part 59 pins: C10 S
part 60 pins: C11 S
part 61 pins: C12 S
part 62 pins: C13 S
part 63 pins: C14 S
part 64 pins: C15 S
part 65 pins: C16 S
part 66 pins: C17 S
part 67 pins: C18 S
part 68 pins: C19 S
part 69 pins: C20 S
part 70 pins: C21 S
part 71 pins: C22 S
part 72 pins: C23 S
part 73 pins: C24 S
part 74 pins: C25 S
part 75 pins: C26 S
part 76 pins: C27 S
part 77 pins: C28 S
part 78 pins: C29 S
part 79 pins: A1 S1, A3 S2, B2 S, C1 S3, C3 S4
part 80 pins: A30 S1, A32 S2, B31 S, C30 S3, C32 S4

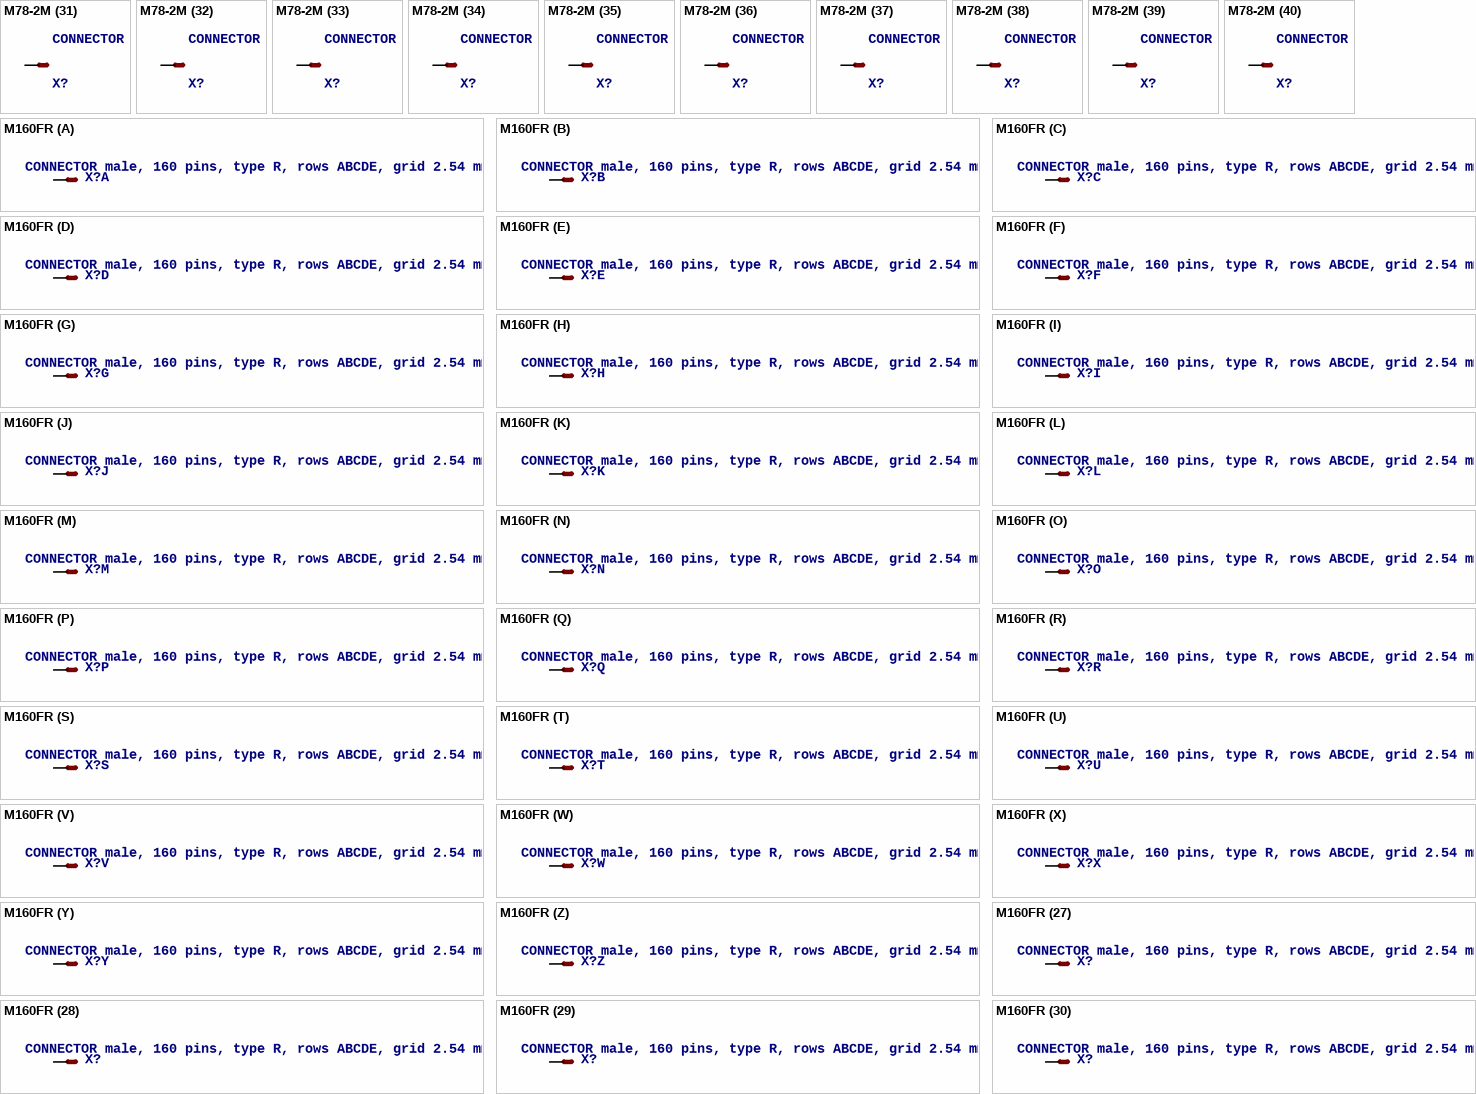
[diagram p61: symbols M78-2M to M160FR]

## M78-2M
designator X?, comment CONNECTOR male, 60 pins + 2 coax, type C, rows ABC, grid 2.54 mm
footprint M78-2M
part A pins: A4 S
part B pins: A5 S
part C pins: A6 S
part D pins: A7 S
part E pins: A8 S
part F pins: A9 S
part G pins: A10 S
part H pins: A11 S
part I pins: A12 S
part J pins: A13 S
part K pins: A14 S
part L pins: A15 S
part M pins: A16 S
part N pins: A17 S
part O pins: A18 S
part P pins: A19 S
part Q pins: A20 S
part R pins: A21 S
part S pins: A22 S
part T pins: A23 S
part U pins: A24 S
part V pins: A25 S
part W pins: A26 S
part X pins: A27 S
part Y pins: A28 S
part Z pins: A29 S
part 27 pins: B4 S
part 28 pins: B5 S
part 29 pins: B6 S
part 30 pins: B7 S
part 31 pins: B8 S
part 32 pins: B9 S
part 33 pins: B10 S
part 34 pins: B11 S
part 35 pins: B12 S
part 36 pins: B13 S
part 37 pins: B14 S
part 38 pins: B15 S
part 39 pins: B16 S
part 40 pins: B17 S
part 41 pins: B18 S
part 42 pins: B19 S
part 43 pins: B20 S
part 44 pins: B21 S
part 45 pins: B22 S
part 46 pins: B23 S
part 47 pins: B24 S
part 48 pins: B25 S
part 49 pins: B26 S
part 50 pins: B27 S
part 51 pins: B28 S
part 52 pins: B29 S
part 53 pins: C4 S
part 54 pins: C5 S
part 55 pins: C6 S
part 56 pins: C7 S
part 57 pins: C8 S
part 58 pins: C9 S
part 59 pins: C10 S
part 60 pins: C11 S
part 61 pins: C12 S
part 62 pins: C13 S
part 63 pins: C14 S
part 64 pins: C15 S
part 65 pins: C16 S
part 66 pins: C17 S
part 67 pins: C18 S
part 68 pins: C19 S
part 69 pins: C20 S
part 70 pins: C21 S
part 71 pins: C22 S
part 72 pins: C23 S
part 73 pins: C24 S
part 74 pins: C25 S
part 75 pins: C26 S
part 76 pins: C27 S
part 77 pins: C28 S
part 78 pins: C29 S
part 79 pins: A1 S1, A3 S2, B2 S, C1 S3, C3 S4
part 80 pins: A30 S1, A32 S2, B31 S, C30 S3, C32 S4

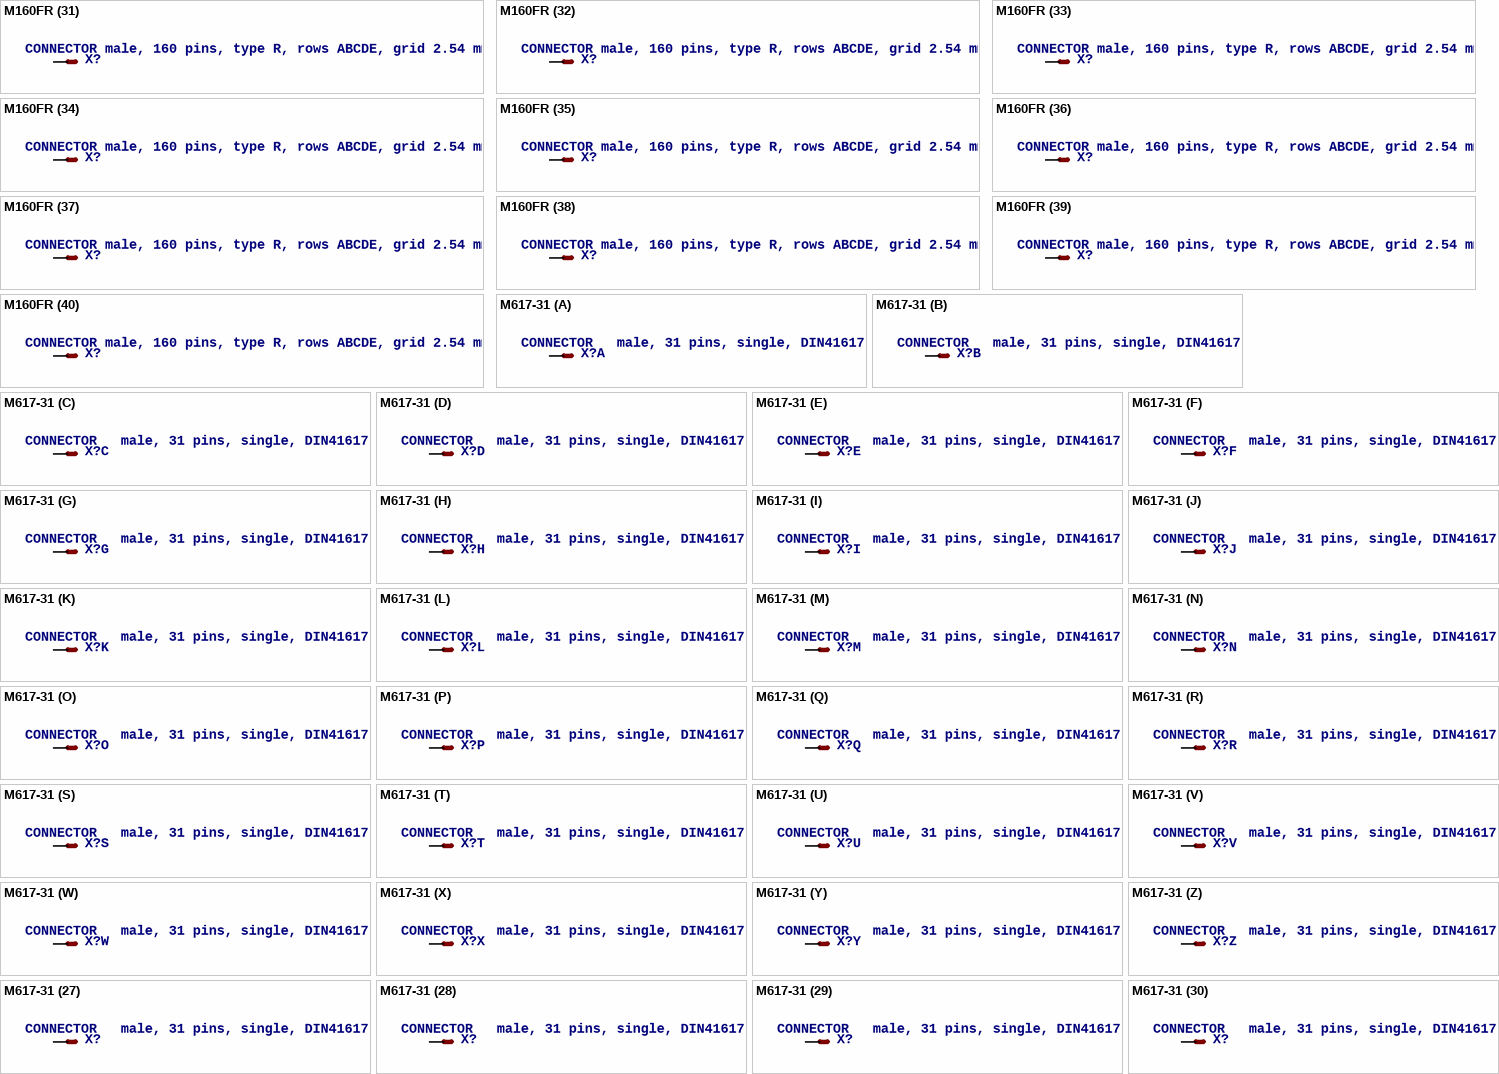
[diagram p62: symbols M160FR to M617-31]

## M160FR
designator X?, comment CONNECTOR male, 160 pins, type R, rows ABCDE, grid 2.54 mm
footprint M160FR
part A pins: A1 S
part B pins: A2 S
part C pins: A3 S
part D pins: A4 S
part E pins: A5 S
part F pins: A6 S
part G pins: A7 S
part H pins: A8 S
part I pins: A9 S
part J pins: A10 S
part K pins: A11 S
part L pins: A12 S
part M pins: A13 S
part N pins: A14 S
part O pins: A15 S
part P pins: A16 S
part Q pins: A17 S
part R pins: A18 S
part S pins: A19 S
part T pins: A20 S
part U pins: A21 S
part V pins: A22 S
part W pins: A23 S
part X pins: A24 S
part Y pins: A25 S
part Z pins: A26 S
part 27 pins: A27 S
part 28 pins: A28 S
part 29 pins: A29 S
part 30 pins: A30 S
part 31 pins: A31 S
part 32 pins: A32 S
part 33 pins: B1 S
part 34 pins: B2 S
part 35 pins: B3 S
part 36 pins: B4 S
part 37 pins: B5 S
part 38 pins: B6 S
part 39 pins: B7 S
part 40 pins: B8 S
part 41 pins: B9 S
part 42 pins: B10 S
part 43 pins: B11 S
part 44 pins: B12 S
part 45 pins: B13 S
part 46 pins: B14 S
part 47 pins: B15 S
part 48 pins: B16 S
part 49 pins: B17 S
part 50 pins: B18 S
part 51 pins: B19 S
part 52 pins: B20 S
part 53 pins: B21 S
part 54 pins: B22 S
part 55 pins: B23 S
part 56 pins: B24 S
part 57 pins: B25 S
part 58 pins: B26 S
part 59 pins: B27 S
part 60 pins: B28 S
part 61 pins: B29 S
part 62 pins: B30 S
part 63 pins: B31 S
part 64 pins: B32 S
part 65 pins: C1 S
part 66 pins: C2 S
part 67 pins: C3 S
part 68 pins: C4 S
part 69 pins: C5 S
part 70 pins: C6 S
part 71 pins: C7 S
part 72 pins: C8 S
part 73 pins: C9 S
part 74 pins: C10 S
part 75 pins: C11 S
part 76 pins: C12 S
part 77 pins: C13 S
part 78 pins: C14 S
part 79 pins: C15 S
part 80 pins: C16 S
part 81 pins: C17 S
part 82 pins: C18 S
part 83 pins: C19 S
part 84 pins: C20 S
part 85 pins: C21 S
part 86 pins: C22 S
part 87 pins: C23 S
part 88 pins: C24 S
part 89 pins: C25 S
part 90 pins: C26 S
part 91 pins: C27 S
part 92 pins: C28 S
part 93 pins: C29 S
part 94 pins: C30 S
part 95 pins: C31 S
part 96 pins: C32 S
part 97 pins: D1 S
part 98 pins: D2 S
part 99 pins: D3 S
part 100 pins: D4 S
part 101 pins: D5 S
part 102 pins: D6 S
part 103 pins: D7 S
part 104 pins: D8 S
part 105 pins: D9 S
part 106 pins: D10 S
part 107 pins: D11 S
part 108 pins: D12 S
part 109 pins: D13 S
part 110 pins: D14 S
part 111 pins: D15 S
part 112 pins: D16 S
part 113 pins: D17 S
part 114 pins: D18 S
part 115 pins: D19 S
part 116 pins: D20 S
part 117 pins: D21 S
part 118 pins: D22 S
part 119 pins: D23 S
part 120 pins: D24 S
part 121 pins: D25 S
part 122 pins: D26 S
part 123 pins: D27 S
part 124 pins: D28 S
part 125 pins: D29 S
part 126 pins: D30 S
part 127 pins: D31 S
part 128 pins: D32 S
part 129 pins: E1 S
part 130 pins: E2 S
part 131 pins: E3 S
part 132 pins: E4 S
part 133 pins: E5 S
part 134 pins: E6 S
part 135 pins: E7 S
part 136 pins: E8 S
part 137 pins: E9 S
part 138 pins: E10 S
part 139 pins: E11 S
part 140 pins: E12 S
part 141 pins: E13 S
part 142 pins: E14 S
part 143 pins: E15 S
part 144 pins: E16 S
part 145 pins: E17 S
part 146 pins: E18 S
part 147 pins: E19 S
part 148 pins: E20 S
part 149 pins: E21 S
part 150 pins: E22 S
part 151 pins: E23 S
part 152 pins: E24 S
part 153 pins: E25 S
part 154 pins: E26 S
part 155 pins: E27 S
part 156 pins: E28 S
part 157 pins: E29 S
part 158 pins: E30 S
part 159 pins: E31 S
part 160 pins: E32 S

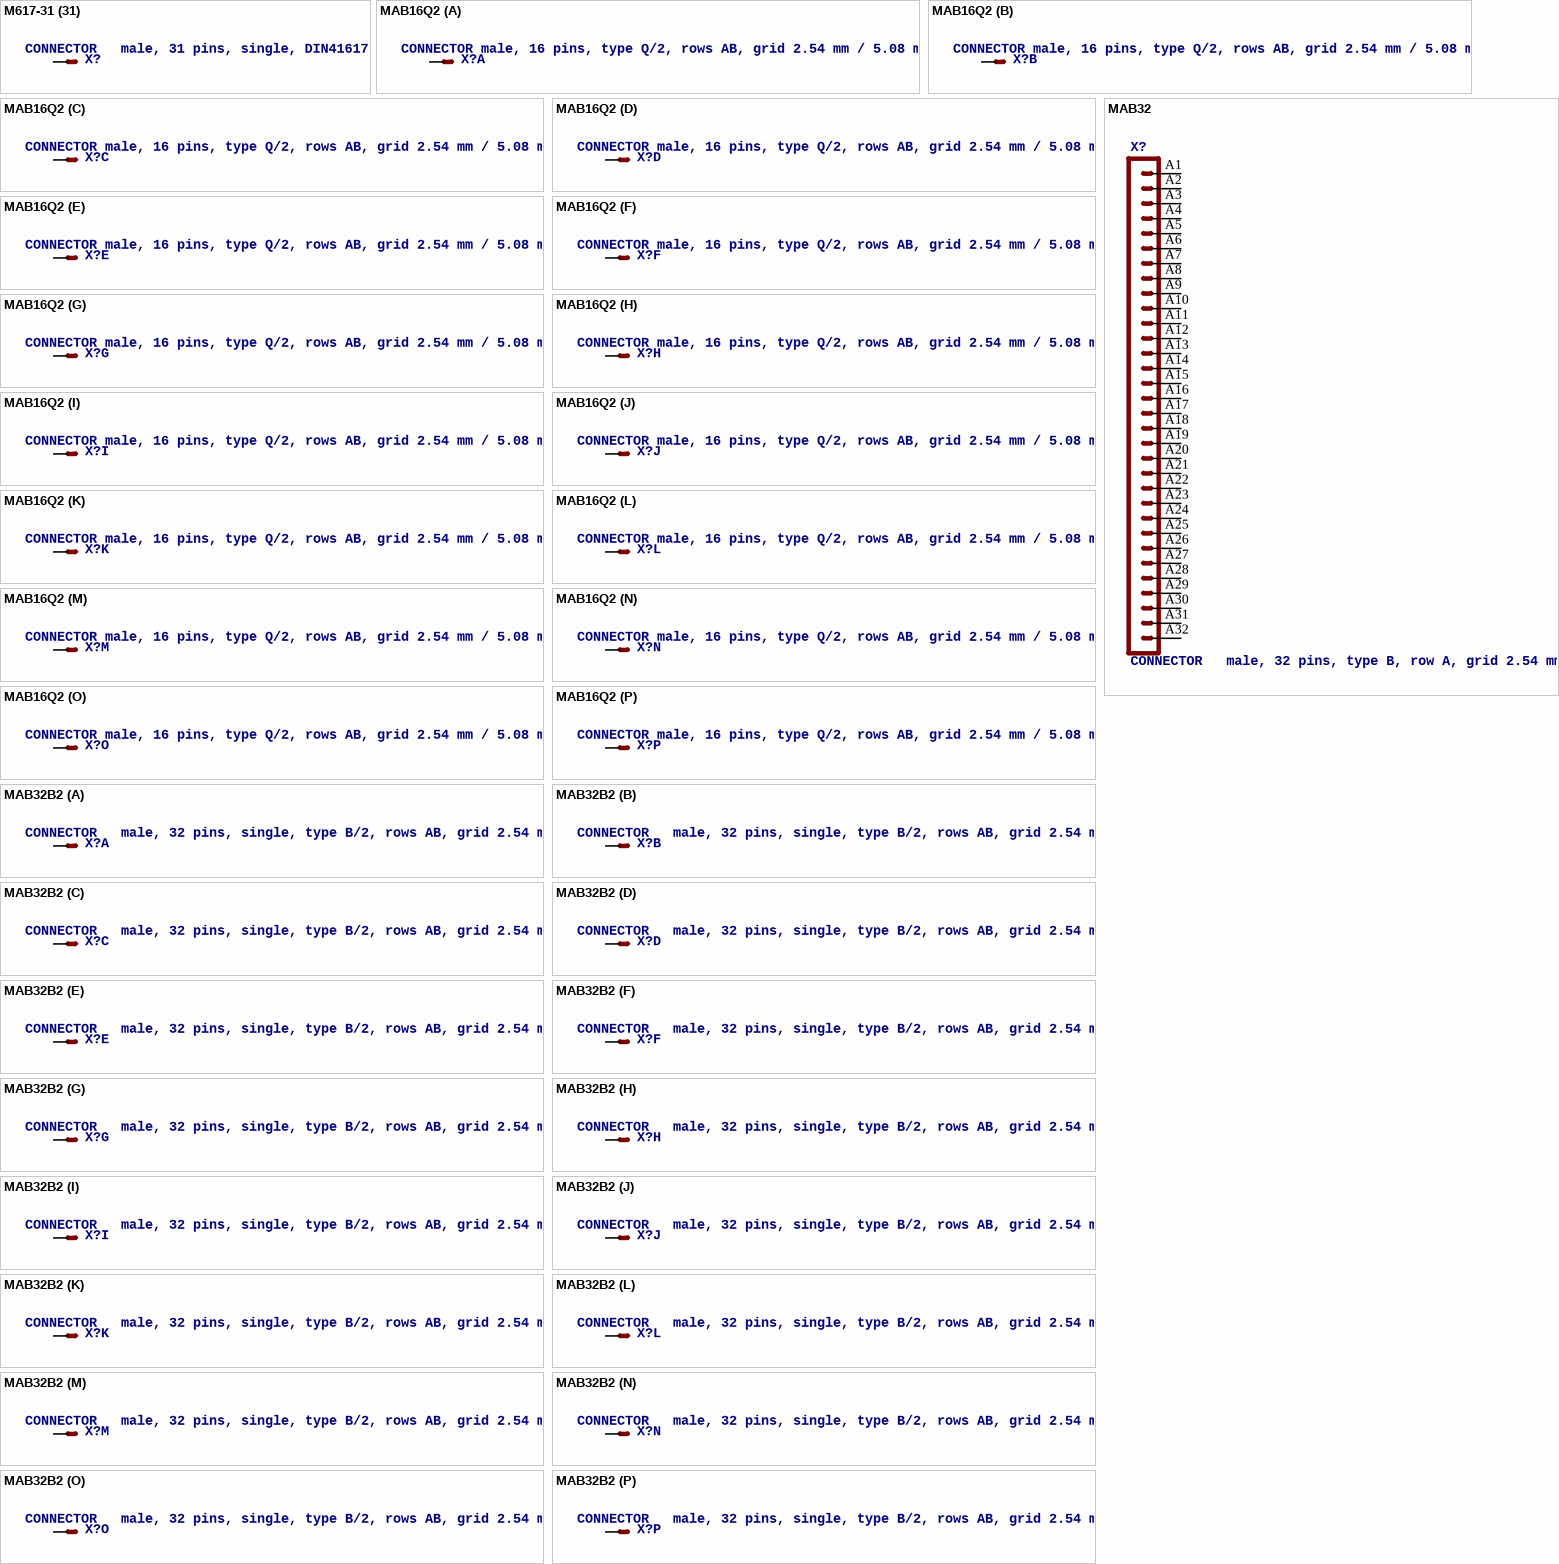
[diagram p63: symbols M617-31 to MAB32B2]

## M617-31
designator X?, comment CONNECTOR   male, 31 pins, single, DIN41617
footprint M617-31
part A pins: 1 S
part B pins: 2 S
part C pins: 3 S
part D pins: 4 S
part E pins: 5 S
part F pins: 6 S
part G pins: 7 S
part H pins: 8 S
part I pins: 9 S
part J pins: 10 S
part K pins: 11 S
part L pins: 12 S
part M pins: 13 S
part N pins: 14 S
part O pins: 15 S
part P pins: 16 S
part Q pins: 17 S
part R pins: 18 S
part S pins: 19 S
part T pins: 20 S
part U pins: 21 S
part V pins: 22 S
part W pins: 23 S
part X pins: 24 S
part Y pins: 25 S
part Z pins: 26 S
part 27 pins: 27 S
part 28 pins: 28 S
part 29 pins: 29 S
part 30 pins: 30 S
part 31 pins: 31 S

## MAB16Q2
designator X?, comment CONNECTOR male, 16 pins, type Q/2, rows AB, grid 2.54 mm / 5.08 mm
footprint MAB16Q2
part A pins: A2 S
part B pins: A4 S
part C pins: A6 S
part D pins: A8 S
part E pins: A10 S
part F pins: A12 S
part G pins: A14 S
part H pins: A16 S
part I pins: B2 S
part J pins: B4 S
part K pins: B6 S
part L pins: B8 S
part M pins: B10 S
part N pins: B12 S
part O pins: B14 S
part P pins: B16 S

## MAB32
designator X?, comment CONNECTOR   male, 32 pins, type B, row A, grid 2.54 mm
footprint MAB32
pins: A1 1, A2 2, A3 3, A4 4, A5 5, A6 6, A7 7, A8 8, A9 9, A10 10, A11 11, A12 12, A13 13, A14 14, A15 15, A16 16, A17 17, A18 18, A19 19, A20 20, A21 21, A22 22, A23 23, A24 24, A25 25, A26 26, A27 27, A28 28, A29 29, A30 30, A31 31, A32 32

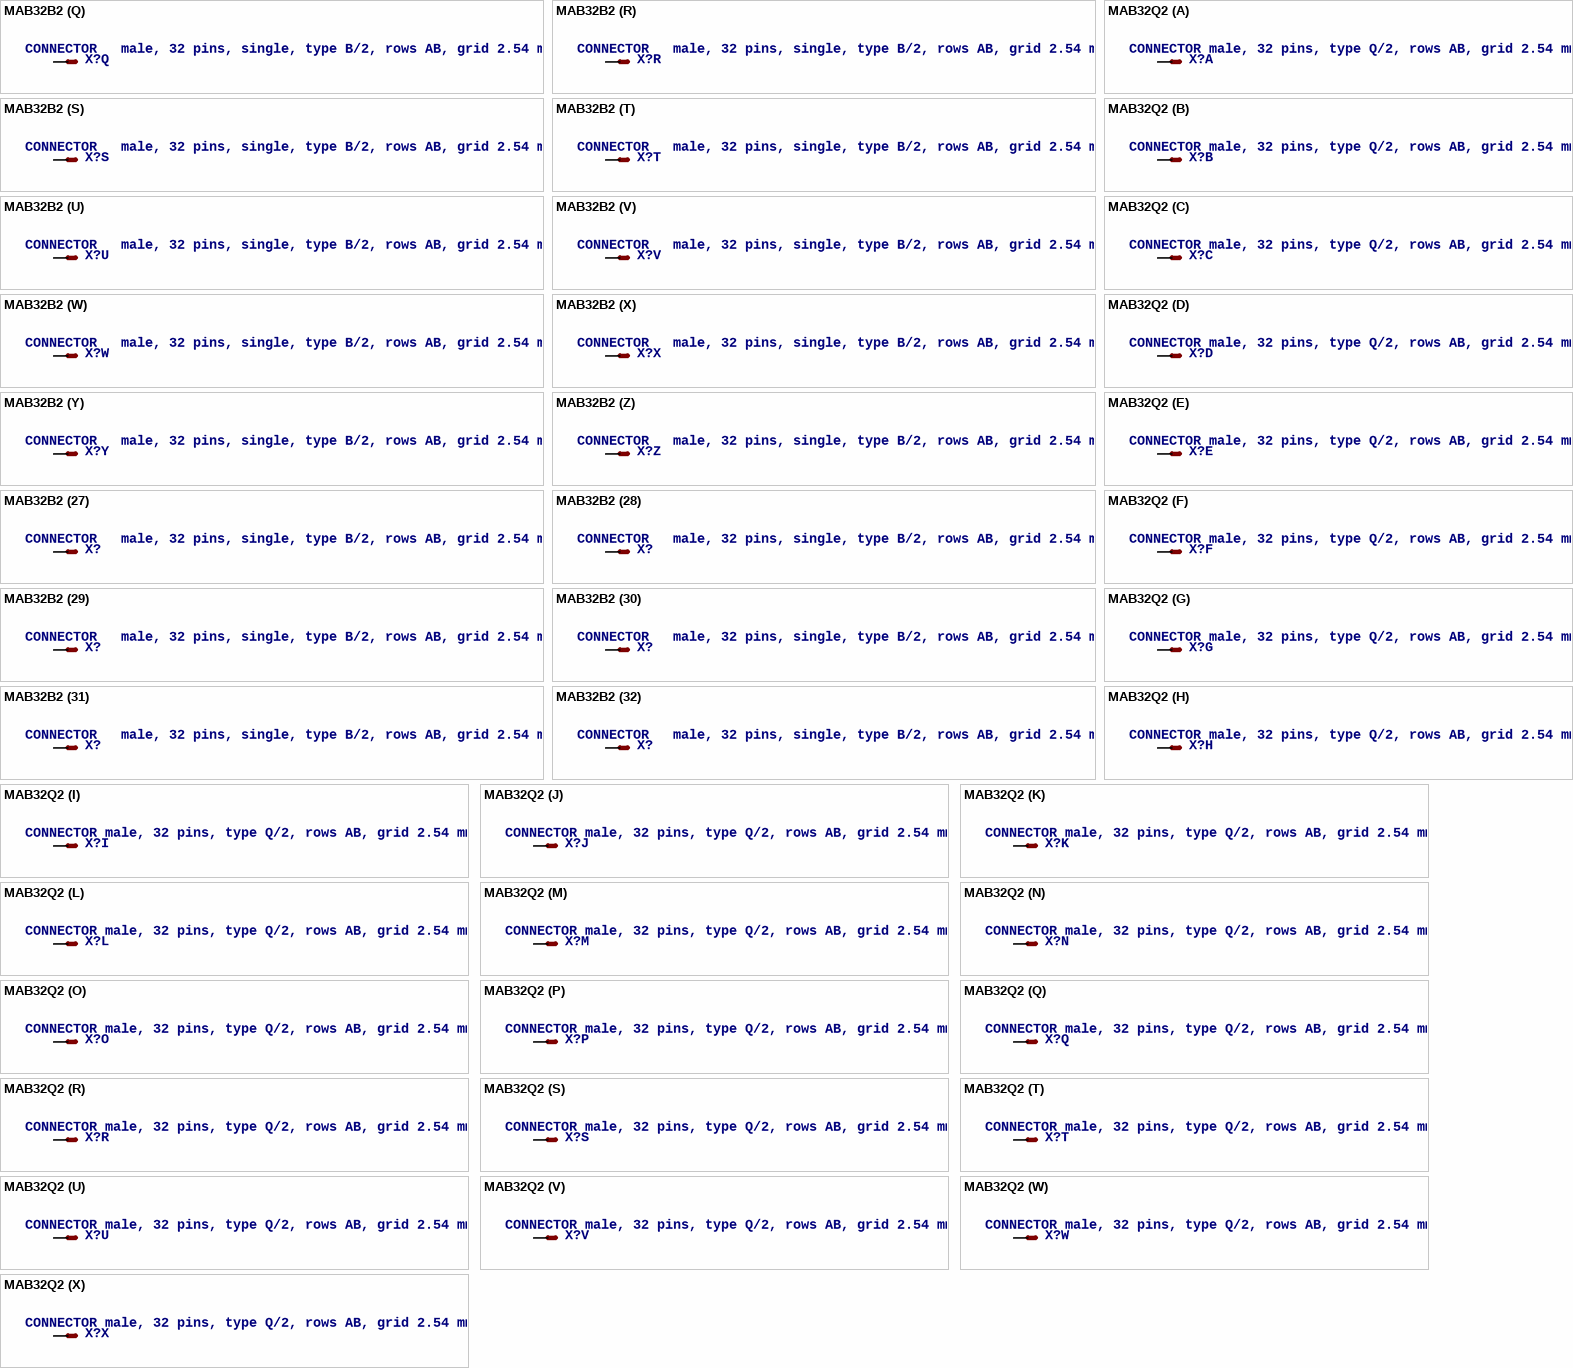
[diagram p64: symbols MAB32B2 to MAB32Q2]

## MAB32B2
designator X?, comment CONNECTOR   male, 32 pins, single, type B/2, rows AB, grid 2.54 mm
footprint MAB32B2
part A pins: A1 S
part B pins: A2 S
part C pins: A3 S
part D pins: A4 S
part E pins: A5 S
part F pins: A6 S
part G pins: A7 S
part H pins: A8 S
part I pins: A9 S
part J pins: A10 S
part K pins: A11 S
part L pins: A12 S
part M pins: A13 S
part N pins: A14 S
part O pins: A15 S
part P pins: A16 S
part Q pins: B1 S
part R pins: B2 S
part S pins: B3 S
part T pins: B4 S
part U pins: B5 S
part V pins: B6 S
part W pins: B7 S
part X pins: B8 S
part Y pins: B9 S
part Z pins: B10 S
part 27 pins: B11 S
part 28 pins: B12 S
part 29 pins: B13 S
part 30 pins: B14 S
part 31 pins: B15 S
part 32 pins: B16 S

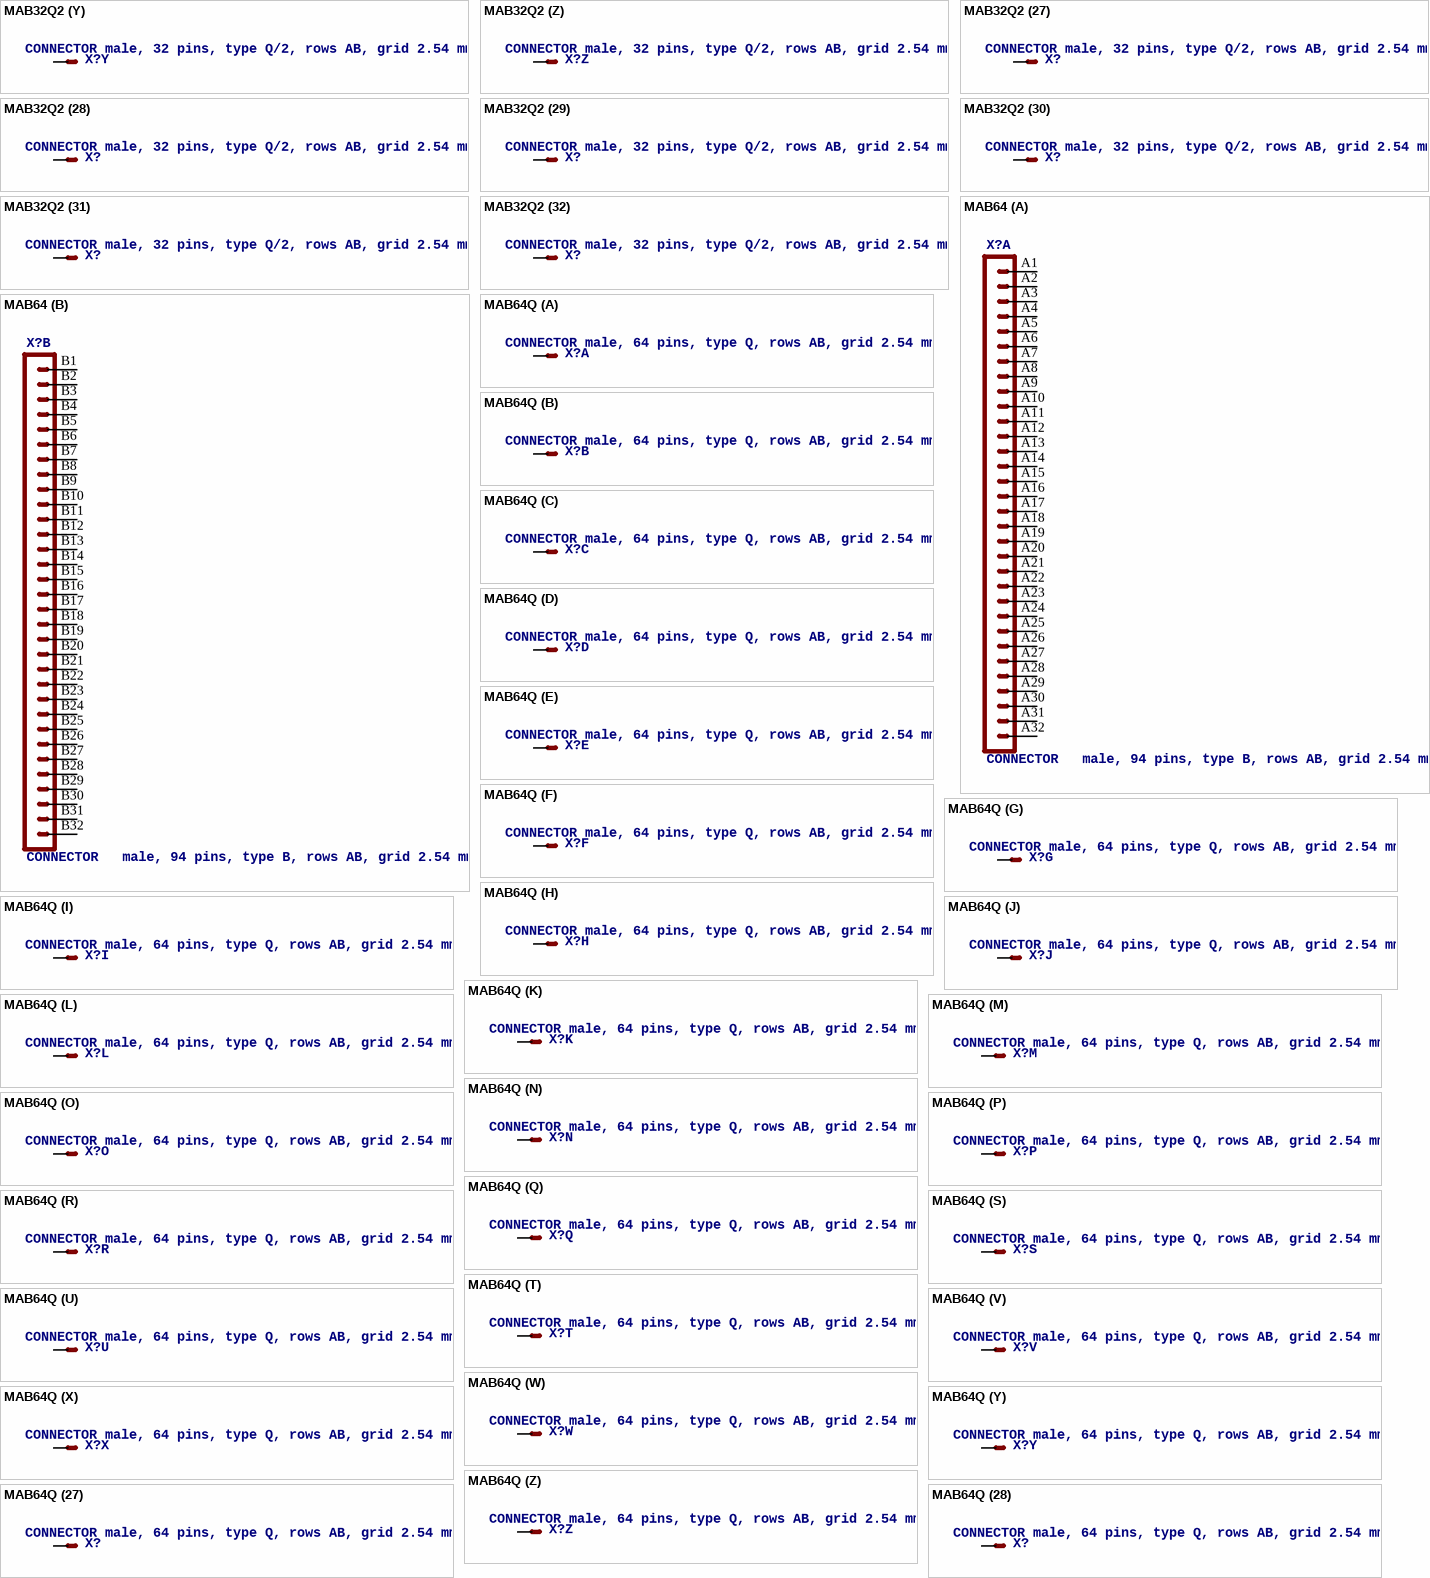
[diagram p65: symbols MAB32Q2 to MAB64Q]

## MAB32Q2
designator X?, comment CONNECTOR male, 32 pins, type Q/2, rows AB, grid 2.54 mm
footprint MAB32Q2
part A pins: A1 S
part B pins: A2 S
part C pins: A3 S
part D pins: A4 S
part E pins: A5 S
part F pins: A6 S
part G pins: A7 S
part H pins: A8 S
part I pins: A9 S
part J pins: A10 S
part K pins: A11 S
part L pins: A12 S
part M pins: A13 S
part N pins: A14 S
part O pins: A15 S
part P pins: A16 S
part Q pins: B1 S
part R pins: B2 S
part S pins: B3 S
part T pins: B4 S
part U pins: B5 S
part V pins: B6 S
part W pins: B7 S
part X pins: B8 S
part Y pins: B9 S
part Z pins: B10 S
part 27 pins: B11 S
part 28 pins: B12 S
part 29 pins: B13 S
part 30 pins: B14 S
part 31 pins: B15 S
part 32 pins: B16 S

## MAB64
designator X?, comment CONNECTOR   male, 94 pins, type B, rows AB, grid 2.54 mm
footprint MAB64
part A pins: A1 1, A2 2, A3 3, A4 4, A5 5, A6 6, A7 7, A8 8, A9 9, A10 10, A11 11, A12 12, A13 13, A14 14, A15 15, A16 16, A17 17, A18 18, A19 19, A20 20, A21 21, A22 22, A23 23, A24 24, A25 25, A26 26, A27 27, A28 28, A29 29, A30 30, A31 31, A32 32
part B pins: B1 1, B2 2, B3 3, B4 4, B5 5, B6 6, B7 7, B8 8, B9 9, B10 10, B11 11, B12 12, B13 13, B14 14, B15 15, B16 16, B17 17, B18 18, B19 19, B20 20, B21 21, B22 22, B23 23, B24 24, B25 25, B26 26, B27 27, B28 28, B29 29, B30 30, B31 31, B32 32

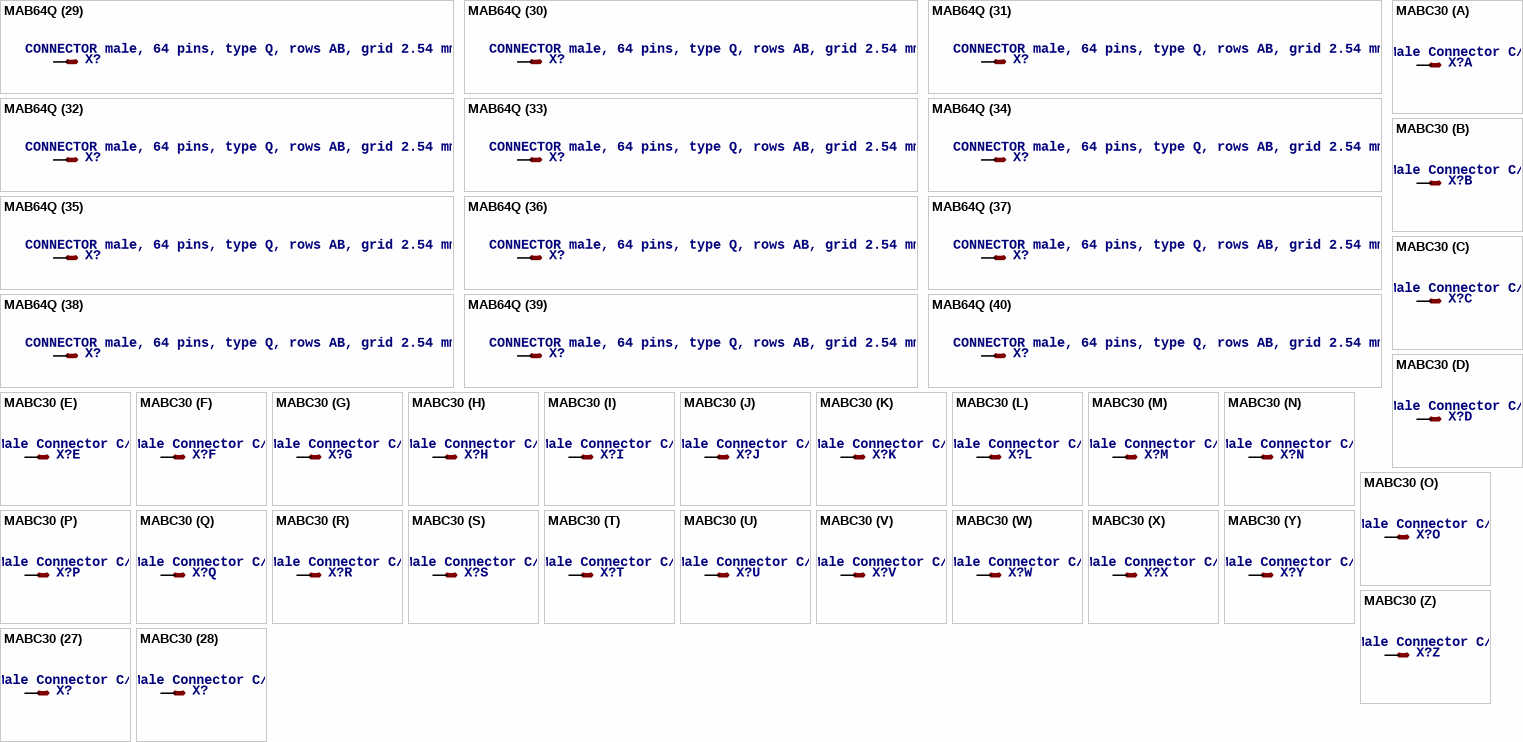
[diagram p66: symbols MAB64Q to MABC30]

## MAB64Q
designator X?, comment CONNECTOR male, 64 pins, type Q, rows AB, grid 2.54 mm
footprint MAB64Q
part A pins: A1 S
part B pins: A2 S
part C pins: A3 S
part D pins: A4 S
part E pins: A5 S
part F pins: A6 S
part G pins: A7 S
part H pins: A8 S
part I pins: A9 S
part J pins: A10 S
part K pins: A11 S
part L pins: A12 S
part M pins: A13 S
part N pins: A14 S
part O pins: A15 S
part P pins: A16 S
part Q pins: A17 S
part R pins: A18 S
part S pins: A19 S
part T pins: A20 S
part U pins: A21 S
part V pins: A22 S
part W pins: A23 S
part X pins: A24 S
part Y pins: A25 S
part Z pins: A26 S
part 27 pins: A27 S
part 28 pins: A28 S
part 29 pins: A29 S
part 30 pins: A30 S
part 31 pins: A31 S
part 32 pins: A32 S
part 33 pins: B1 S
part 34 pins: B2 S
part 35 pins: B3 S
part 36 pins: B4 S
part 37 pins: B5 S
part 38 pins: B6 S
part 39 pins: B7 S
part 40 pins: B8 S
part 41 pins: B9 S
part 42 pins: B10 S
part 43 pins: B11 S
part 44 pins: B12 S
part 45 pins: B13 S
part 46 pins: B14 S
part 47 pins: B15 S
part 48 pins: B16 S
part 49 pins: B17 S
part 50 pins: B18 S
part 51 pins: B19 S
part 52 pins: B20 S
part 53 pins: B21 S
part 54 pins: B22 S
part 55 pins: B23 S
part 56 pins: B24 S
part 57 pins: B25 S
part 58 pins: B26 S
part 59 pins: B27 S
part 60 pins: B28 S
part 61 pins: B29 S
part 62 pins: B30 S
part 63 pins: B31 S
part 64 pins: B32 S

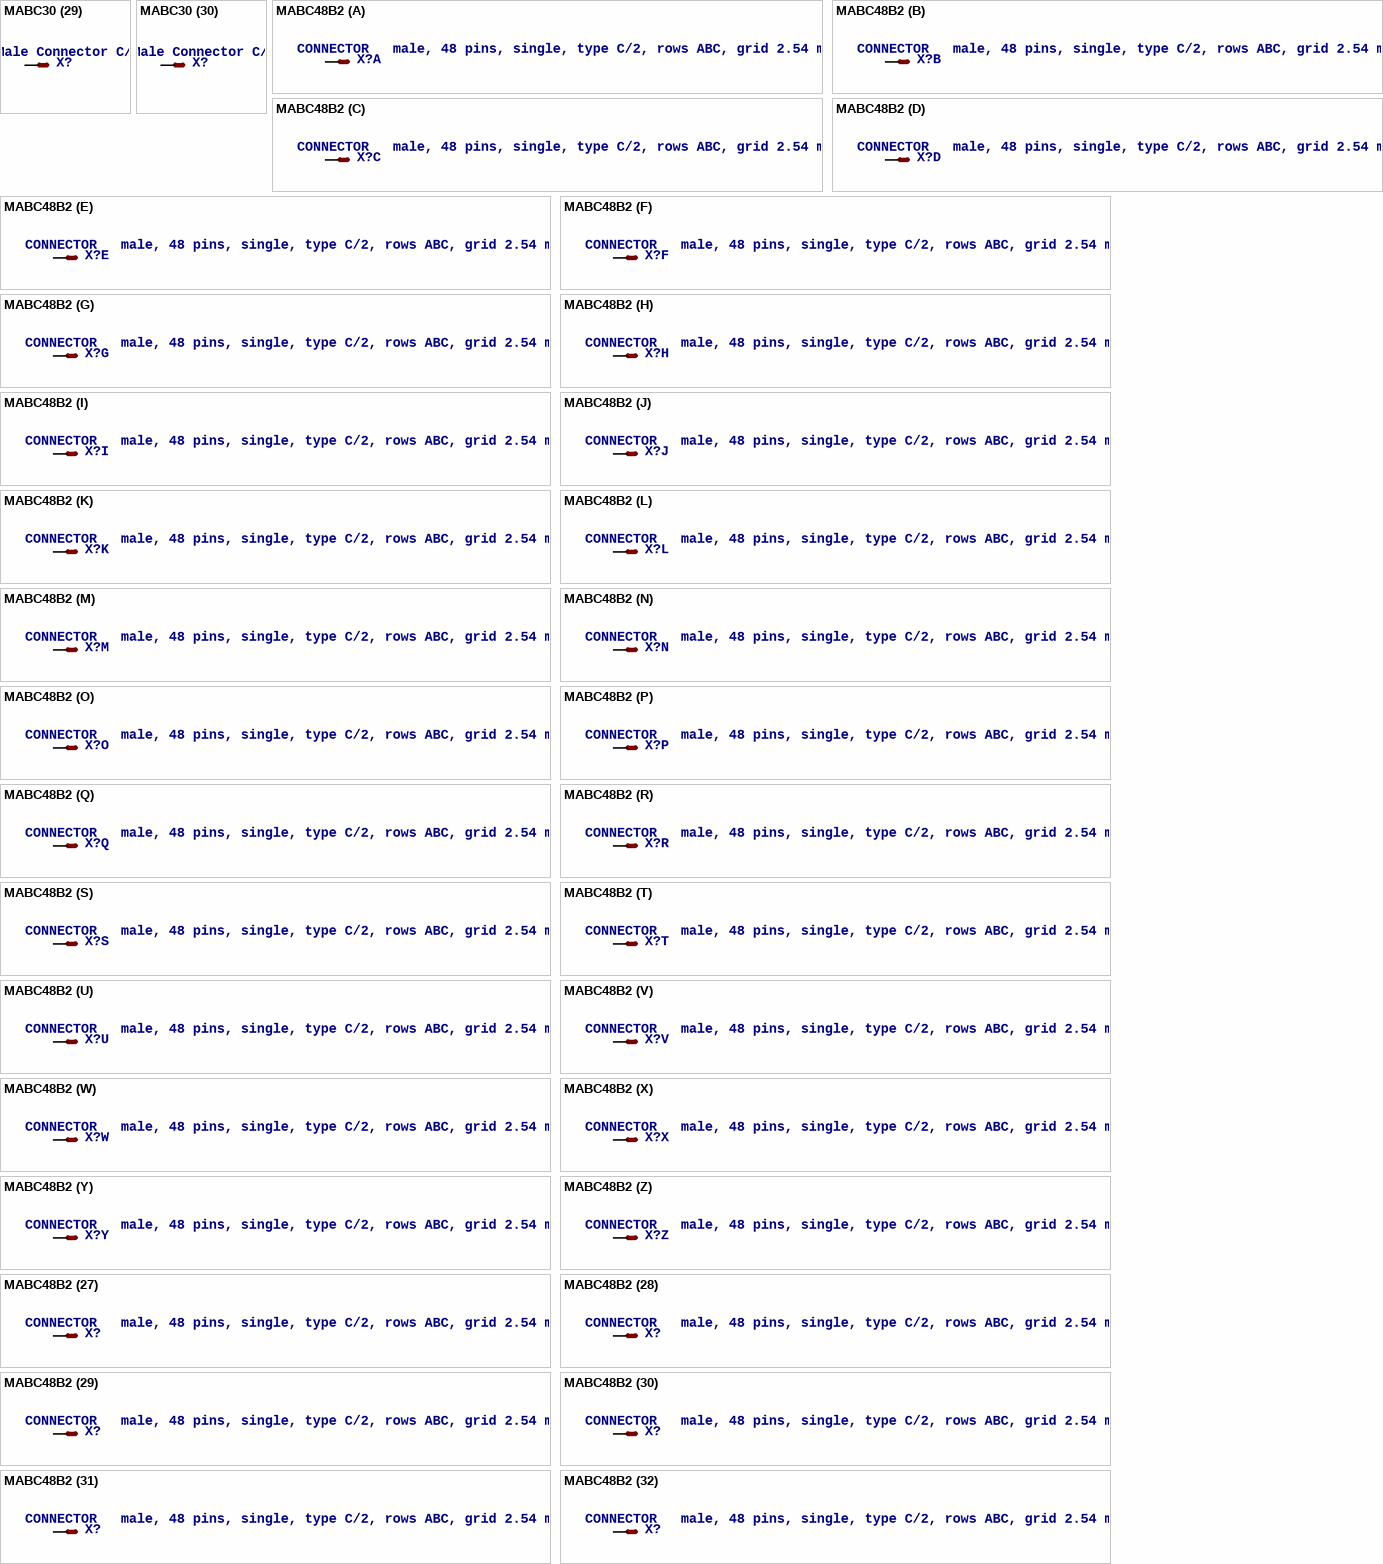
[diagram p67: symbols MABC30 to MABC48B2]

## MABC30
designator X?, comment Male Connector C/3, 30 Solder   DIN EN 60 603-02 Source: www.erni.com .. 424189.pdf
footprint MABC30
part A pins: A1 S
part B pins: A2 S
part C pins: A3 S
part D pins: A4 S
part E pins: A5 S
part F pins: A6 S
part G pins: A7 S
part H pins: A8 S
part I pins: A9 S
part J pins: A10 S
part K pins: B1 S
part L pins: B2 S
part M pins: B3 S
part N pins: B4 S
part O pins: B5 S
part P pins: B6 S
part Q pins: B7 S
part R pins: B8 S
part S pins: B9 S
part T pins: B10 S
part U pins: C1 S
part V pins: C2 S
part W pins: C3 S
part X pins: C4 S
part Y pins: C5 S
part Z pins: C6 S
part 27 pins: C7 S
part 28 pins: C8 S
part 29 pins: C9 S
part 30 pins: C10 S

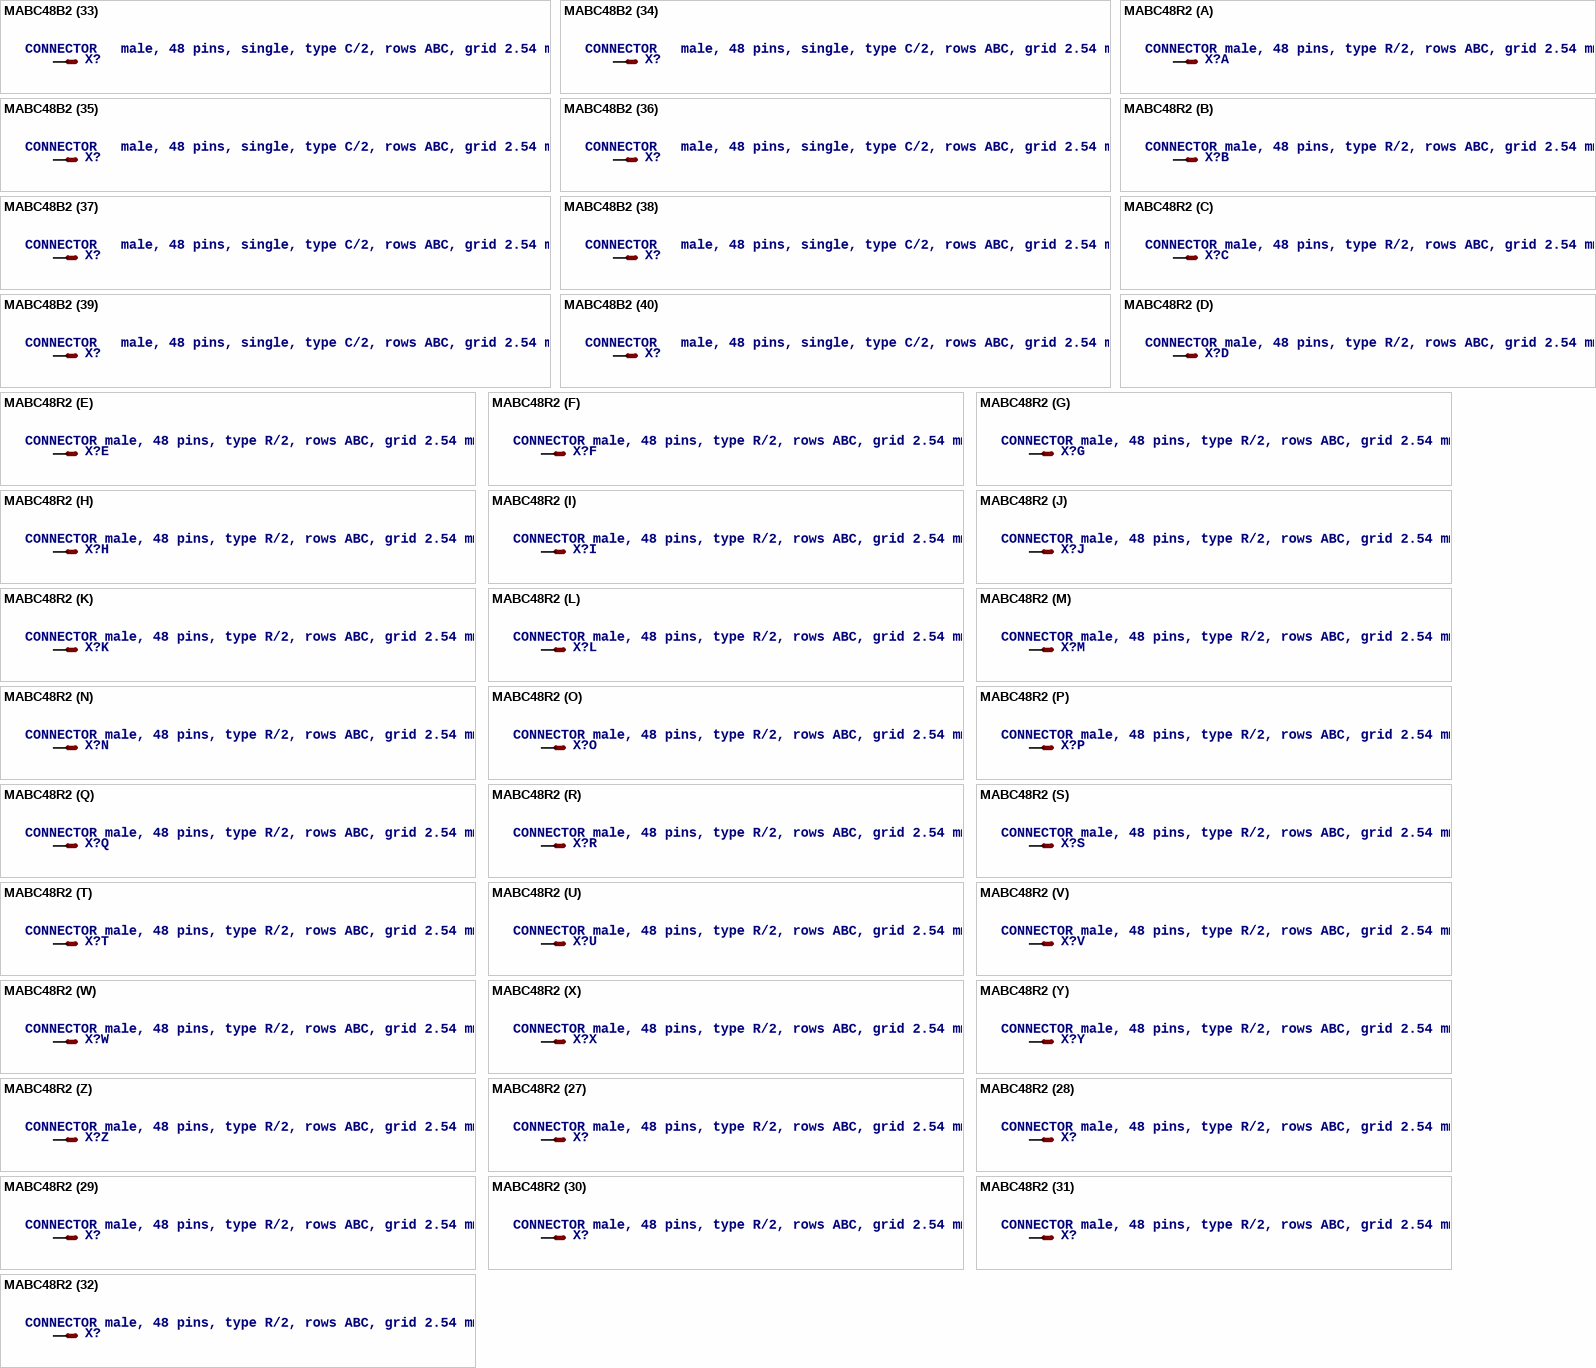
[diagram p68: symbols MABC48B2 to MABC48R2]

## MABC48B2
designator X?, comment CONNECTOR   male, 48 pins, single, type C/2, rows ABC, grid 2.54 mm
footprint MABC48B2
part A pins: A1 S
part B pins: A2 S
part C pins: A3 S
part D pins: A4 S
part E pins: A5 S
part F pins: A6 S
part G pins: A7 S
part H pins: A8 S
part I pins: A9 S
part J pins: A10 S
part K pins: A11 S
part L pins: A12 S
part M pins: A13 S
part N pins: A14 S
part O pins: A15 S
part P pins: A16 S
part Q pins: B1 S
part R pins: B2 S
part S pins: B3 S
part T pins: B4 S
part U pins: B5 S
part V pins: B6 S
part W pins: B7 S
part X pins: B8 S
part Y pins: B9 S
part Z pins: B10 S
part 27 pins: B11 S
part 28 pins: B12 S
part 29 pins: B13 S
part 30 pins: B14 S
part 31 pins: B15 S
part 32 pins: B16 S
part 33 pins: C1 S
part 34 pins: C2 S
part 35 pins: C3 S
part 36 pins: C4 S
part 37 pins: C5 S
part 38 pins: C6 S
part 39 pins: C7 S
part 40 pins: C8 S
part 41 pins: C9 S
part 42 pins: C10 S
part 43 pins: C11 S
part 44 pins: C12 S
part 45 pins: C13 S
part 46 pins: C14 S
part 47 pins: C15 S
part 48 pins: C16 S